# Altium integrated library Lattice ORCA Series 2.IntLib: 202 symbols (part 14 of 22)
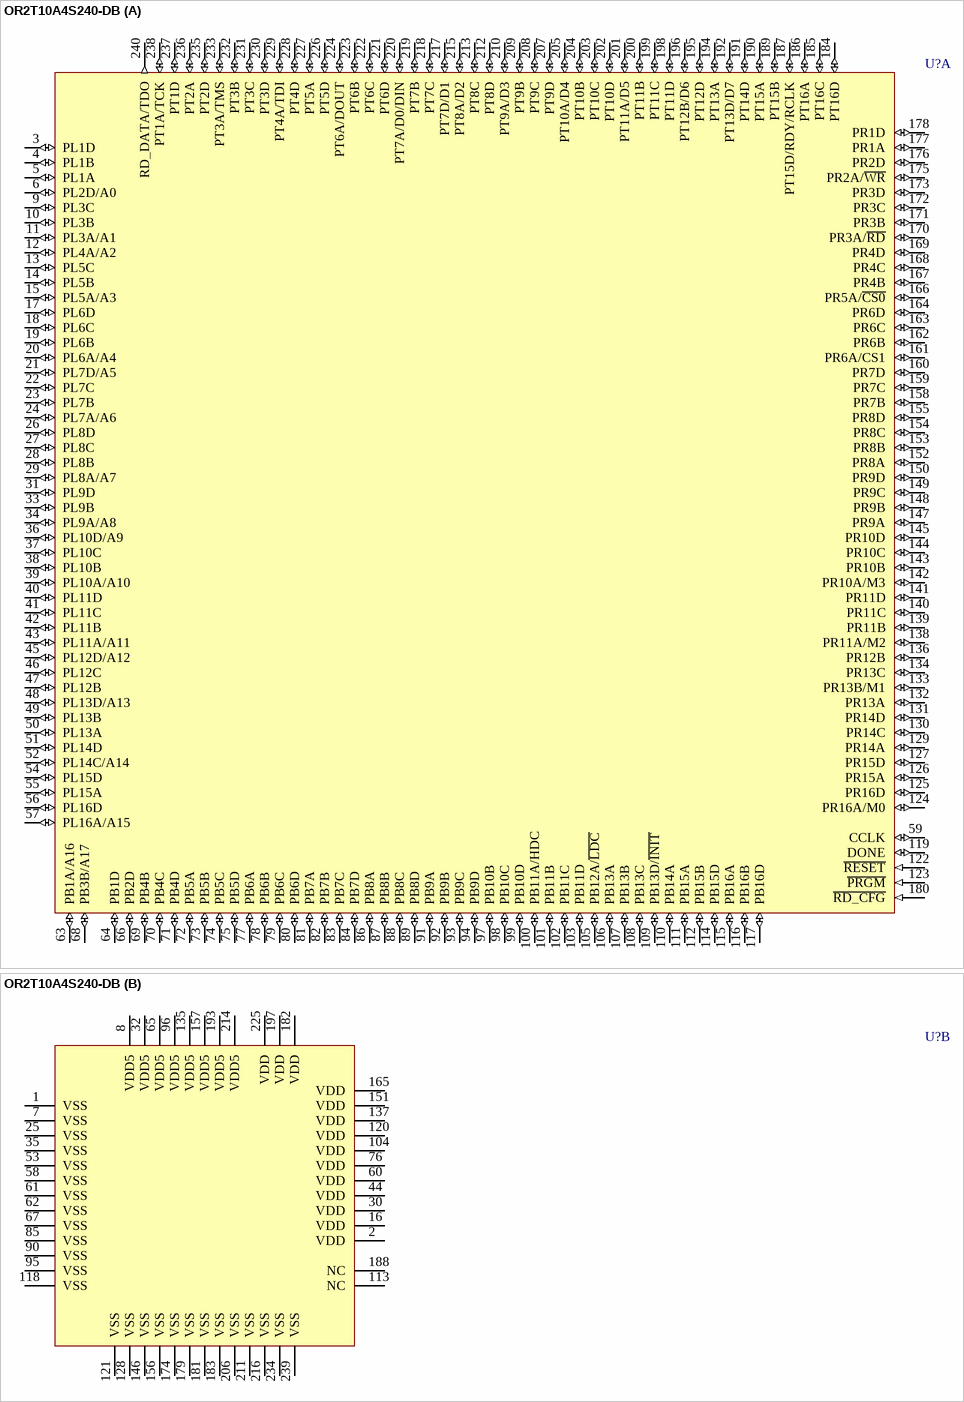
[diagram p205: symbol OR2T10A4S240-DB]

## OR2T10A4S240-DB
designator U?
ORCA Series 2C FPGA: 3.3 V, Commercial Grade, 256 User I/Os.; Published: 21-May-2003; LatestRevisionDate: 13-Apr-2006; LatestRevisionNote: IPC-7351 Footprint Added.; DatasheetVersion: Jan-2003; PackageVersion: pkg_32, Aug-2005; PackageReference: PQFP240; Publisher: Altium Limited; PackageDescription: 240-Pin Shrink Quad Flat Pack 0.5 mm Pitch; ComponentLink1Description: Manufacturer Link; ComponentLink1URL: http://www.latticesemi.com/products/fpga/orca/orca2/index.cfm; ComponentLink2Description: Datasheet; ComponentLink2URL: http://www.latticesemi.com/lit/docs/datasheets/fpga/ds99-094fpga.pdf; ComponentLink3Description: Lattice Login; ComponentLink3URL: http://www.latticesemi.com/account/login.cfm
footprint PQFP240_N (Shrink QFP, 240-Leads, Body 32x32mm, Pitch 0.5mm, IPC Medium Density)
footprint PQFP240_L (Shrink QFP, 240-Leads, Body 32x32mm, Pitch 0.5mm, IPC High Density)
footprint PQFP240_M (Shrink QFP, 240-Leads, Body 32x32mm, Pitch 0.5mm, IPC Low Density)
3D model OR2T10A-PQFP240 (240-Pin Shrink Quad Flat Pack 0.5 mm Pitch)
part A pins: 3 PL1D (io), 4 PL1B (io), 5 PL1A (io), 6 PL2D/A0 (io), 9 PL3C (io), 10 PL3B (io), 11 PL3A/A1 (io), 12 PL4A/A2 (io), 13 PL5C (io), 14 PL5B (io), 15 PL5A/A3 (io), 17 PL6D (io), 18 PL6C (io), 19 PL6B (io), 20 PL6A/A4 (io), 21 PL7D/A5 (io), 22 PL7C (io), 23 PL7B (io), 24 PL7A/A6 (io), 26 PL8D (io), 27 PL8C (io), 28 PL8B (io), 29 PL8A/A7 (io), 31 PL9D (io), 33 PL9B (io), 34 PL9A/A8 (io), 36 PL10D/A9 (io), 37 PL10C (io), 38 PL10B (io), 39 PL10A/A10 (io), 40 PL11D (io), 41 PL11C (io), 42 PL11B (io), 43 PL11A/A11 (io), 45 PL12D/A12 (io), 46 PL12C (io), 47 PL12B (io), 48 PL13D/A13 (io), 49 PL13B (io), 50 PL13A (io), 51 PL14D (io), 52 PL14C/A14 (io), 54 PL15D (io), 55 PL15A (io), 56 PL16D (io), 57 PL16A/A15 (io), 59 CCLK (io), 63 PB1A/A16 (io), 64 PB1D (io), 66 PB2D (io), 68 PB3B/A17 (io), 69 PB4B (io), 70 PB4C (io), 71 PB4D (io), 72 PB5A (io), 73 PB5B (io), 74 PB5C (io), 75 PB5D (io), 77 PB6A (io), 78 PB6B (io), 79 PB6C (io), 80 PB6D (io), 81 PB7A (io), 82 PB7B (io), 83 PB7C (io), 84 PB7D (io), 86 PB8A (io), 87 PB8B (io), 88 PB8C (io), 89 PB8D (io), 91 PB9A (io), 92 PB9B (io), 93 PB9C (io), 94 PB9D (io), 97 PB10B (io), 98 PB10C (io), 99 PB10D (io), 100 PB11A/HDC (io), 101 PB11B (io), 102 PB11C (io), 103 PB11D (io), 105 PB12A/~{LDC} (io), 106 PB13A (io), 107 PB13B (io), 108 PB13C (io), 109 PB13D/~{INIT} (io), 110 PB14A (io), 111 PB15A (io), 112 PB15B (io), 114 PB15D (io), 115 PB16A (io), 116 PB16B (io), 117 PB16D (io), 119 DONE (io), 122 ~{RESET} (in), 123 ~{PRGM} (in), 124 PR16A/M0 (io), 125 PR16D (io), 126 PR15A (io), 127 PR15D (io), 129 PR14A (io), 130 PR14C (io), 131 PR14D (io), 132 PR13A (io), 133 PR13B/M1 (io), 134 PR13C (io), 136 PR12B (io), 138 PR11A/M2 (io), 139 PR11B (io), 140 PR11C (io), 141 PR11D (io), 142 PR10A/M3 (io), 143 PR10B (io), 144 PR10C (io), 145 PR10D (io), 147 PR9A (io), 148 PR9B (io), 149 PR9C (io), 150 PR9D (io), 152 PR8A (io), 153 PR8B (io), 154 PR8C (io), 155 PR8D (io), 158 PR7B (io), 159 PR7C (io), 160 PR7D (io), 161 PR6A/CS1 (io), 162 PR6B (io), 163 PR6C (io), 164 PR6D (io), 166 PR5A/~{CS0} (io), 167 PR4B (io), 168 PR4C (io), 169 PR4D (io), 170 PR3A/~{RD} (io), 171 PR3B (io), 172 PR3C (io), 173 PR3D (io), 175 PR2A/~{WR} (io), 176 PR2D (io), 177 PR1A (io), 178 PR1D (io), 180 ~{RD_CFG} (in), 184 PT16D (io), 185 PT16C (io), 186 PT16A (io), 187 PT15D/RDY/RCLK (io), 189 PT15B (io), 190 PT15A (io), 191 PT14D (io), 192 PT13D/D7 (io), 194 PT13A (io), 195 PT12D (io), 196 PT12B/D6 (io), 198 PT11D (io), 199 PT11C (io), 200 PT11B (io), 201 PT11A/D5 (io), 202 PT10D (io), 203 PT10C (io), 204 PT10B (io), 205 PT10A/D4 (io), 207 PT9D (io), 208 PT9C (io), 209 PT9B (io), 210 PT9A/D3 (io), 212 PT8D (io), 213 PT8C (io), 215 PT8A/D2 (io), 217 PT7D/D1 (io), 218 PT7C (io), 219 PT7B (io), 220 PT7A/D0/DIN (io), 221 PT6D (io), 222 PT6C (io), 223 PT6B (io), 224 PT6A/DOUT (io), 226 PT5D (io), 227 PT5A (io), 228 PT4D (io), 229 PT4A/TDI (io), 230 PT3D (io), 231 PT3C (io), 232 PT3B (io), 233 PT3A/TMS (io), 235 PT2D (io), 236 PT2A (io), 237 PT1D (io), 238 PT1A/TCK (io), 240 RD_DATA/TDO (out)
part B pins: 1 VSS (power), 2 VDD (power), 7 VSS (power), 8 VDD5 (power), 16 VDD (power), 25 VSS (power), 30 VDD (power), 32 VDD5 (power), 35 VSS (power), 44 VDD (power), 53 VSS (power), 58 VSS (power), 60 VDD (power), 61 VSS (power), 62 VSS (power), 65 VDD5 (power), 67 VSS (power), 76 VDD (power), 85 VSS (power), 90 VSS (power), 95 VSS (power), 96 VDD5 (power), 104 VDD (power), 113 NC, 118 VSS (power), 120 VDD (power), 121 VSS (power), 128 VSS (power), 135 VDD5 (power), 137 VDD (power), 146 VSS (power), 151 VDD (power), 156 VSS (power), 157 VDD5 (power), 165 VDD (power), 174 VSS (power), 179 VSS (power), 181 VSS (power), 182 VDD (power), 183 VSS (power), 188 NC, 193 VDD5 (power), 197 VDD (power), 206 VSS (power), 211 VSS (power), 214 VDD5 (power), 216 VSS (power), 225 VDD (power), 234 VSS (power), 239 VSS (power)

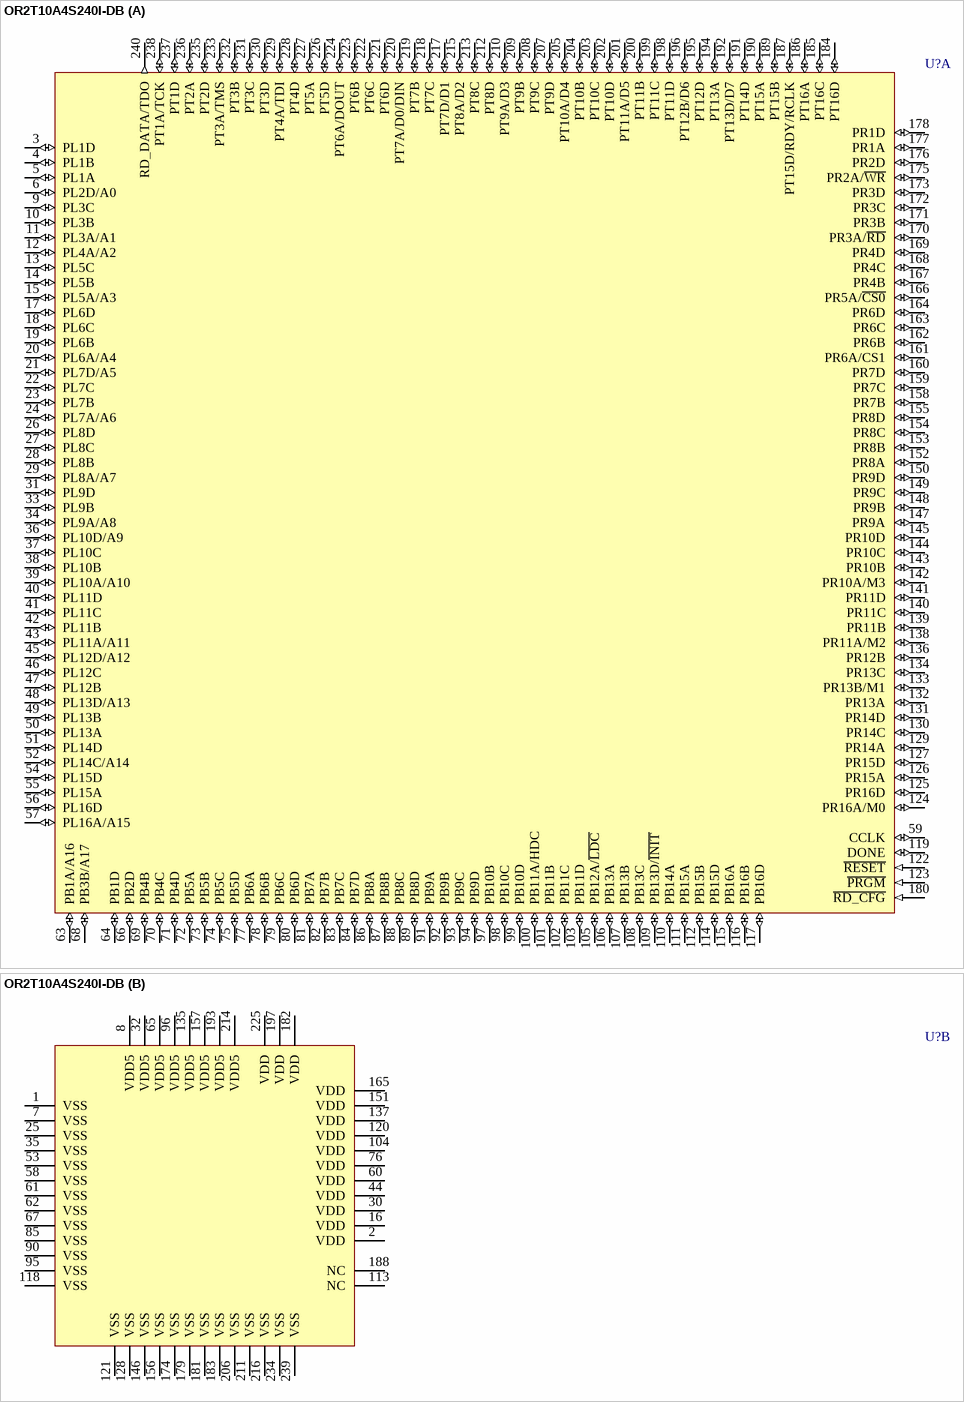
[diagram p107: symbol OR2T10A4S240I-DB]

## OR2T10A4S240I-DB
designator U?
ORCA Series 2C FPGA: 3.3 V, Industrial Grade, 256 User I/Os.; Published: 21-May-2003; LatestRevisionDate: 13-Apr-2006; LatestRevisionNote: IPC-7351 Footprint Added.; DatasheetVersion: Jan-2003; PackageVersion: pkg_32, Aug-2005; PackageReference: PQFP240; Publisher: Altium Limited; PackageDescription: 240-Pin Shrink Quad Flat Pack 0.5 mm Pitch; ComponentLink1Description: Manufacturer Link; ComponentLink1URL: http://www.latticesemi.com/products/fpga/orca/orca2/index.cfm; ComponentLink2Description: Datasheet; ComponentLink2URL: http://www.latticesemi.com/lit/docs/datasheets/fpga/ds99-094fpga.pdf; ComponentLink3Description: Lattice Login; ComponentLink3URL: http://www.latticesemi.com/account/login.cfm
footprint PQFP240_N (Shrink QFP, 240-Leads, Body 32x32mm, Pitch 0.5mm, IPC Medium Density)
footprint PQFP240_L (Shrink QFP, 240-Leads, Body 32x32mm, Pitch 0.5mm, IPC High Density)
footprint PQFP240_M (Shrink QFP, 240-Leads, Body 32x32mm, Pitch 0.5mm, IPC Low Density)
3D model OR2T10A-PQFP240 (240-Pin Shrink Quad Flat Pack 0.5 mm Pitch)
part A pins: 3 PL1D (io), 4 PL1B (io), 5 PL1A (io), 6 PL2D/A0 (io), 9 PL3C (io), 10 PL3B (io), 11 PL3A/A1 (io), 12 PL4A/A2 (io), 13 PL5C (io), 14 PL5B (io), 15 PL5A/A3 (io), 17 PL6D (io), 18 PL6C (io), 19 PL6B (io), 20 PL6A/A4 (io), 21 PL7D/A5 (io), 22 PL7C (io), 23 PL7B (io), 24 PL7A/A6 (io), 26 PL8D (io), 27 PL8C (io), 28 PL8B (io), 29 PL8A/A7 (io), 31 PL9D (io), 33 PL9B (io), 34 PL9A/A8 (io), 36 PL10D/A9 (io), 37 PL10C (io), 38 PL10B (io), 39 PL10A/A10 (io), 40 PL11D (io), 41 PL11C (io), 42 PL11B (io), 43 PL11A/A11 (io), 45 PL12D/A12 (io), 46 PL12C (io), 47 PL12B (io), 48 PL13D/A13 (io), 49 PL13B (io), 50 PL13A (io), 51 PL14D (io), 52 PL14C/A14 (io), 54 PL15D (io), 55 PL15A (io), 56 PL16D (io), 57 PL16A/A15 (io), 59 CCLK (io), 63 PB1A/A16 (io), 64 PB1D (io), 66 PB2D (io), 68 PB3B/A17 (io), 69 PB4B (io), 70 PB4C (io), 71 PB4D (io), 72 PB5A (io), 73 PB5B (io), 74 PB5C (io), 75 PB5D (io), 77 PB6A (io), 78 PB6B (io), 79 PB6C (io), 80 PB6D (io), 81 PB7A (io), 82 PB7B (io), 83 PB7C (io), 84 PB7D (io), 86 PB8A (io), 87 PB8B (io), 88 PB8C (io), 89 PB8D (io), 91 PB9A (io), 92 PB9B (io), 93 PB9C (io), 94 PB9D (io), 97 PB10B (io), 98 PB10C (io), 99 PB10D (io), 100 PB11A/HDC (io), 101 PB11B (io), 102 PB11C (io), 103 PB11D (io), 105 PB12A/~{LDC} (io), 106 PB13A (io), 107 PB13B (io), 108 PB13C (io), 109 PB13D/~{INIT} (io), 110 PB14A (io), 111 PB15A (io), 112 PB15B (io), 114 PB15D (io), 115 PB16A (io), 116 PB16B (io), 117 PB16D (io), 119 DONE (io), 122 ~{RESET} (in), 123 ~{PRGM} (in), 124 PR16A/M0 (io), 125 PR16D (io), 126 PR15A (io), 127 PR15D (io), 129 PR14A (io), 130 PR14C (io), 131 PR14D (io), 132 PR13A (io), 133 PR13B/M1 (io), 134 PR13C (io), 136 PR12B (io), 138 PR11A/M2 (io), 139 PR11B (io), 140 PR11C (io), 141 PR11D (io), 142 PR10A/M3 (io), 143 PR10B (io), 144 PR10C (io), 145 PR10D (io), 147 PR9A (io), 148 PR9B (io), 149 PR9C (io), 150 PR9D (io), 152 PR8A (io), 153 PR8B (io), 154 PR8C (io), 155 PR8D (io), 158 PR7B (io), 159 PR7C (io), 160 PR7D (io), 161 PR6A/CS1 (io), 162 PR6B (io), 163 PR6C (io), 164 PR6D (io), 166 PR5A/~{CS0} (io), 167 PR4B (io), 168 PR4C (io), 169 PR4D (io), 170 PR3A/~{RD} (io), 171 PR3B (io), 172 PR3C (io), 173 PR3D (io), 175 PR2A/~{WR} (io), 176 PR2D (io), 177 PR1A (io), 178 PR1D (io), 180 ~{RD_CFG} (in), 184 PT16D (io), 185 PT16C (io), 186 PT16A (io), 187 PT15D/RDY/RCLK (io), 189 PT15B (io), 190 PT15A (io), 191 PT14D (io), 192 PT13D/D7 (io), 194 PT13A (io), 195 PT12D (io), 196 PT12B/D6 (io), 198 PT11D (io), 199 PT11C (io), 200 PT11B (io), 201 PT11A/D5 (io), 202 PT10D (io), 203 PT10C (io), 204 PT10B (io), 205 PT10A/D4 (io), 207 PT9D (io), 208 PT9C (io), 209 PT9B (io), 210 PT9A/D3 (io), 212 PT8D (io), 213 PT8C (io), 215 PT8A/D2 (io), 217 PT7D/D1 (io), 218 PT7C (io), 219 PT7B (io), 220 PT7A/D0/DIN (io), 221 PT6D (io), 222 PT6C (io), 223 PT6B (io), 224 PT6A/DOUT (io), 226 PT5D (io), 227 PT5A (io), 228 PT4D (io), 229 PT4A/TDI (io), 230 PT3D (io), 231 PT3C (io), 232 PT3B (io), 233 PT3A/TMS (io), 235 PT2D (io), 236 PT2A (io), 237 PT1D (io), 238 PT1A/TCK (io), 240 RD_DATA/TDO (out)
part B pins: 1 VSS (power), 2 VDD (power), 7 VSS (power), 8 VDD5 (power), 16 VDD (power), 25 VSS (power), 30 VDD (power), 32 VDD5 (power), 35 VSS (power), 44 VDD (power), 53 VSS (power), 58 VSS (power), 60 VDD (power), 61 VSS (power), 62 VSS (power), 65 VDD5 (power), 67 VSS (power), 76 VDD (power), 85 VSS (power), 90 VSS (power), 95 VSS (power), 96 VDD5 (power), 104 VDD (power), 113 NC, 118 VSS (power), 120 VDD (power), 121 VSS (power), 128 VSS (power), 135 VDD5 (power), 137 VDD (power), 146 VSS (power), 151 VDD (power), 156 VSS (power), 157 VDD5 (power), 165 VDD (power), 174 VSS (power), 179 VSS (power), 181 VSS (power), 182 VDD (power), 183 VSS (power), 188 NC, 193 VDD5 (power), 197 VDD (power), 206 VSS (power), 211 VSS (power), 214 VDD5 (power), 216 VSS (power), 225 VDD (power), 234 VSS (power), 239 VSS (power)

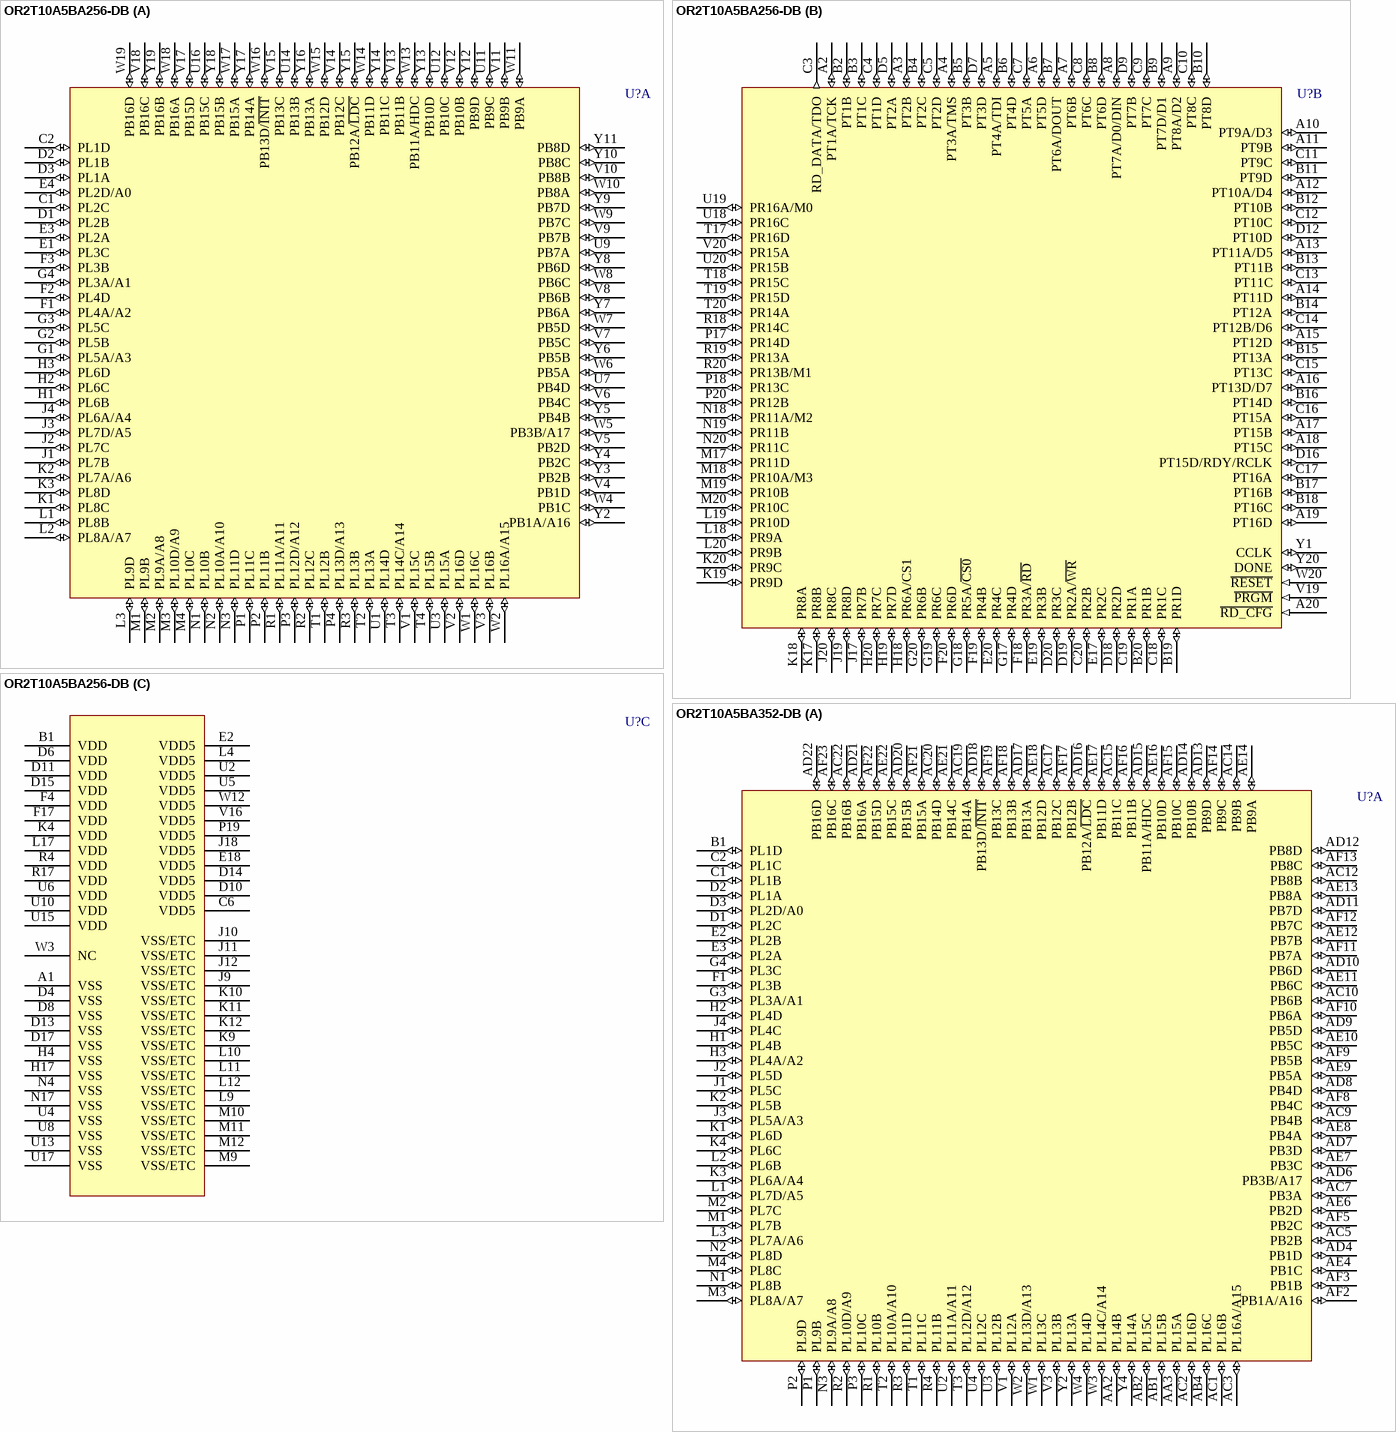
[diagram p108: symbols OR2T10A5BA256-DB to OR2T10A5BA352-DB]

## OR2T10A5BA256-DB
designator U?
ORCA Series 2C FPGA: 3.3 V, Commercial Grade, 256 User I/Os.; PinConnectionRecommendation: Ground array of 'VSS-ETC' pins for enhanced thermal capability or leave unconnected.; Published: 21-May-2003; LatestRevisionDate: 13-Apr-2006; LatestRevisionNote: IPC-7351 Footprint Added.; DatasheetVersion: Jan-2003; PackageVersion: pkg_32, Aug-2005; PackageReference: BGA272; Publisher: Altium Limited; PackageDescription: 272-Ball Ball Grid Array (BGA272); ComponentLink1Description: Manufacturer Link; ComponentLink1URL: http://www.latticesemi.com/products/fpga/orca/orca2/index.cfm; ComponentLink2Description: Datasheet; ComponentLink2URL: http://www.latticesemi.com/lit/docs/datasheets/fpga/ds99-094fpga.pdf; ComponentLink3Description: Lattice Login; ComponentLink3URL: http://www.latticesemi.com/account/login.cfm
footprint BGA272 (BGA, 272-Leads, Body 27x27mm, Pitch 1.27mm)
3D model OR2T10A-BGA272 (272-Ball Ball Grid Array (BGA272))
part A pins: C1 PL2C (io), C2 PL1D (io), D1 PL2B (io), D2 PL1B (io), D3 PL1A (io), E1 PL3C (io), E3 PL2A (io), E4 PL2D/A0 (io), F1 PL4A/A2 (io), F2 PL4D (io), F3 PL3B (io), G1 PL5A/A3 (io), G2 PL5B (io), G3 PL5C (io), G4 PL3A/A1 (io), H1 PL6B (io), H2 PL6C (io), H3 PL6D (io), J1 PL7B (io), J2 PL7C (io), J3 PL7D/A5 (io), J4 PL6A/A4 (io), K1 PL8C (io), K2 PL7A/A6 (io), K3 PL8D (io), L1 PL8B (io), L2 PL8A/A7 (io), L3 PL9D (io), M1 PL9B (io), M2 PL9A/A8 (io), M3 PL10D/A9 (io), M4 PL10C (io), N1 PL10B (io), N2 PL10A/A10 (io), N3 PL11D (io), P1 PL11C (io), P2 PL11B (io), P3 PL12D/A12 (io), P4 PL13D/A13 (io), R1 PL11A/A11 (io), R2 PL12C (io), R3 PL13B (io), T1 PL12B (io), T2 PL13A (io), T3 PL14C/A14 (io), T4 PL15B (io), U1 PL14D (io), U3 PL15A (io), U7 PB4D (io), U9 PB7A (io), U11 PB9C (io), U12 PB10C (io), U14 PB13B (io), U16 PB15C (io), V1 PL15C (io), V2 PL16D (io), V3 PL16B (io), V4 PB1D (io), V5 PB2D (io), V6 PB4C (io), V7 PB5C (io), V8 PB6B (io), V9 PB7B (io), V10 PB8B (io), V11 PB9B (io), V12 PB10B (io), V13 PB11B (io), V14 PB12C (io), V15 PB13C (io), V17 PB15D (io), V18 PB16C (io), W1 PL16C (io), W2 PL16A/A15 (io), W4 PB1C (io), W5 PB3B/A17 (io), W6 PB5A (io), W7 PB5D (io), W8 PB6C (io), W9 PB7C (io), W10 PB8A (io), W11 PB9A (io), W13 PB11A/HDC (io), W14 PB11D (io), W15 PB12D (io), W16 PB13D/~{INIT} (io), W17 PB15A (io), W18 PB16A (io), W19 PB16D (io), Y2 PB1A/A16 (io), Y3 PB2B (io), Y4 PB2C (io), Y5 PB4B (io), Y6 PB5B (io), Y7 PB6A (io), Y8 PB6D (io), Y9 PB7D (io), Y10 PB8C (io), Y11 PB8D (io), Y12 PB9D (io), Y13 PB10D (io), Y14 PB11C (io), Y15 PB12A/~{LDC} (io), Y16 PB13A (io), Y17 PB14A (io), Y18 PB15B (io), Y19 PB16B (io)
part B pins: A2 PT1A/TCK (io), A3 PT2B (io), A4 PT3A/TMS (io), A5 PT4A/TDI (io), A6 PT5D (io), A7 PT6B (io), A8 PT7A/D0/DIN (io), A9 PT8A/D2 (io), A10 PT9A/D3 (io), A11 PT9B (io), A12 PT10A/D4 (io), A13 PT11A/D5 (io), A14 PT11D (io), A15 PT12D (io), A16 PT13D/D7 (io), A17 PT15B (io), A18 PT15C (io), A19 PT16D (io), A20 ~{RD_CFG} (in), B2 PT1B (io), B3 PT1C (io), B4 PT2C (io), B5 PT3B (io), B6 PT4D (io), B7 PT6A/DOUT (io), B8 PT6D (io), B9 PT7D/D1 (io), B10 PT8D (io), B11 PT9D (io), B12 PT10B (io), B13 PT11B (io), B14 PT12A (io), B15 PT13A (io), B16 PT14D (io), B17 PT16B (io), B18 PT16C (io), B19 PR1D (io), B20 PR1B (io), C3 RD_DATA/TDO (out), C4 PT1D (io), C5 PT2D (io), C7 PT5A (io), C8 PT6C (io), C9 PT7C (io), C10 PT8C (io), C11 PT9C (io), C12 PT10C (io), C13 PT11C (io), C14 PT12B/D6 (io), C15 PT13C (io), C16 PT15A (io), C17 PT16A (io), C18 PR1C (io), C19 PR1A (io), C20 PR2B (io), D5 PT2A (io), D7 PT3D (io), D9 PT7B (io), D12 PT10D (io), D16 PT15D/RDY/RCLK (io), D18 PR2D (io), D19 PR2A/~{WR} (io), D20 PR3C (io), E17 PR2C (io), E19 PR3B (io), E20 PR4C (io), F18 PR3A/~{RD} (io), F19 PR4B (io), F20 PR6D (io), G17 PR4D (io), G18 PR5A/~{CS0} (io), G19 PR6C (io), G20 PR6B (io), H18 PR6A/CS1 (io), H19 PR7D (io), H20 PR7C (io), J17 PR7B (io), J19 PR8D (io), J20 PR8C (io), K17 PR8B (io), K18 PR8A (io), K19 PR9D (io), K20 PR9C (io), L18 PR9A (io), L19 PR10D (io), L20 PR9B (io), M17 PR11D (io), M18 PR10A/M3 (io), M19 PR10B (io), M20 PR10C (io), N18 PR11A/M2 (io), N19 PR11B (io), N20 PR11C (io), P17 PR14D (io), P18 PR13C (io), P20 PR12B (io), R18 PR14C (io), R19 PR13A (io), R20 PR13B/M1 (io), T17 PR16D (io), T18 PR15C (io), T19 PR15D (io), T20 PR14A (io), U18 PR16C (io), U19 PR16A/M0 (io), U20 PR15B (io), V19 ~{PRGM} (in), V20 PR15A (io), W20 ~{RESET} (in), Y1 CCLK (io), Y20 DONE (io)
part C pins: A1 VSS (power), B1 VDD (power), C6 VDD5 (power), D4 VSS (power), D6 VDD (power), D8 VSS (power), D10 VDD5 (power), D11 VDD (power), D13 VSS (power), D14 VDD5 (power), D15 VDD (power), D17 VSS (power), E2 VDD5 (power), E18 VDD5 (power), F4 VDD (power), F17 VDD (power), H4 VSS (power), H17 VSS (power), J9 VSS/ETC (power), J10 VSS/ETC (power), J11 VSS/ETC (power), J12 VSS/ETC (power), J18 VDD5 (power), K4 VDD (power), K9 VSS/ETC (power), K10 VSS/ETC (power), K11 VSS/ETC (power), K12 VSS/ETC (power), L4 VDD5 (power), L9 VSS/ETC (power), L10 VSS/ETC (power), L11 VSS/ETC (power), L12 VSS/ETC (power), L17 VDD (power), M9 VSS/ETC (power), M10 VSS/ETC (power), M11 VSS/ETC (power), M12 VSS/ETC (power), N4 VSS (power), N17 VSS (power), P19 VDD5 (power), R4 VDD (power), R17 VDD (power), U2 VDD5 (power), U4 VSS (power), U5 VDD5 (power), U6 VDD (power), U8 VSS (power), U10 VDD (power), U13 VSS (power), U15 VDD (power), U17 VSS (power), V16 VDD5 (power), W3 NC, W12 VDD5 (power)

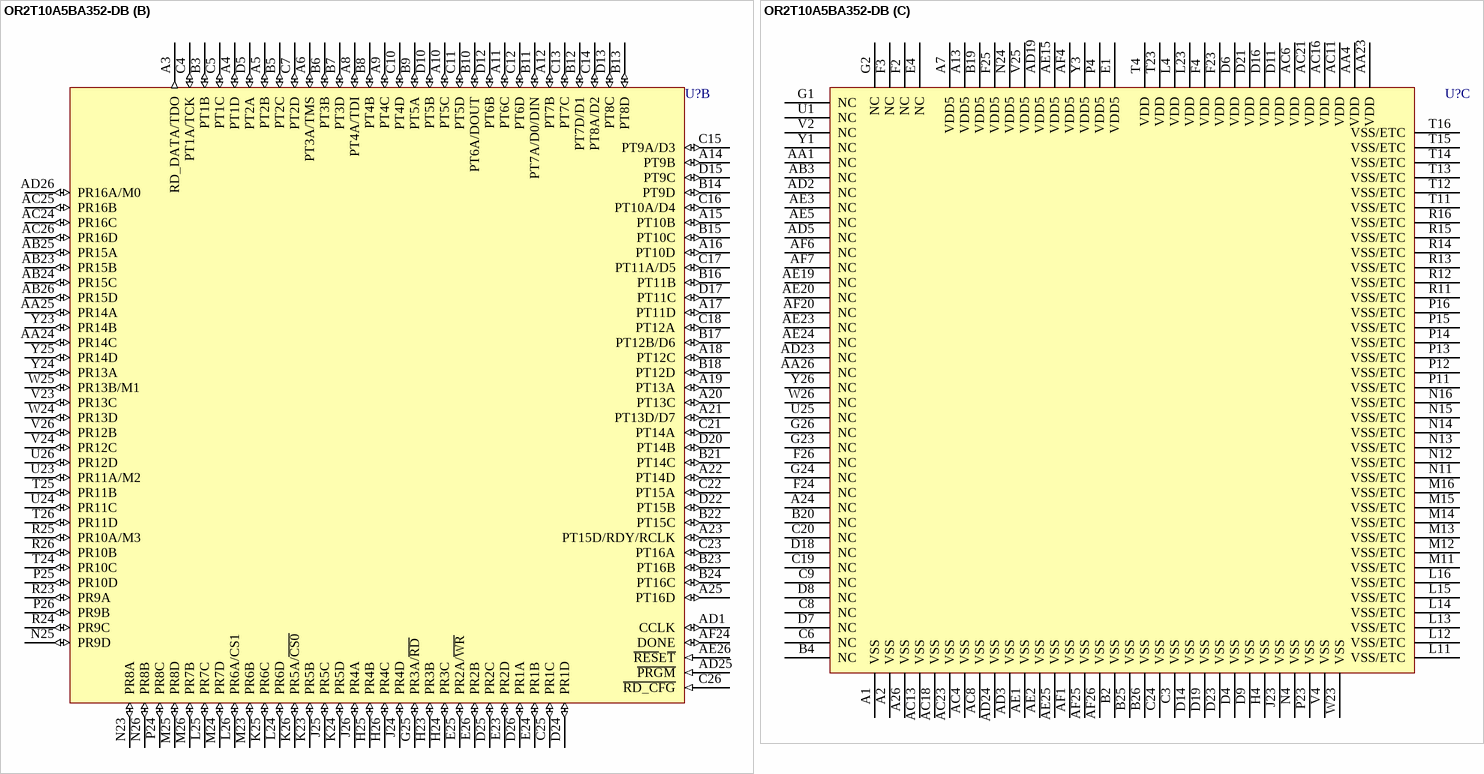
[diagram p109: symbol OR2T10A5BA352-DB]

## OR2T10A5BA352-DB
designator U?
ORCA Series 2C FPGA: 3.3 V, Commercial Grade, 256 User I/Os.; PinConnectionRecommendation: Ground array of 'VSS-ETC' pins for enhanced thermal capability or leave unconnected.; Published: 21-May-2003; LatestRevisionDate: 13-Apr-2006; LatestRevisionNote: IPC-7351 Footprint Added.; DatasheetVersion: Jan-2003; PackageVersion: pkg_32, Aug-2005; PackageReference: BGA388; Publisher: Altium Limited; PackageDescription: 388-Ball Ball Grid Array (BGA388); ComponentLink1Description: Manufacturer Link; ComponentLink1URL: http://www.latticesemi.com/products/fpga/orca/orca2/index.cfm; ComponentLink2Description: Datasheet; ComponentLink2URL: http://www.latticesemi.com/lit/docs/datasheets/fpga/ds99-094fpga.pdf; ComponentLink3Description: Lattice Login; ComponentLink3URL: http://www.latticesemi.com/account/login.cfm
footprint BGA388 (BGA, 388-Leads, Body 35x35mm, Pitch 1.27mm)
3D model OR2T10A-BGA388 (388-Ball Ball Grid Array (BGA388))
part A pins: AA2 PL14B (io), AA3 PL15A (io), AB1 PL15B (io), AB2 PL15C (io), AB4 PL16C (io), AC1 PL16B (io), AC2 PL16D (io), AC3 PL16A/A15 (io), AC5 PB2B (io), AC7 PB3A (io), AC9 PB4B (io), AC10 PB6B (io), AC12 PB8B (io), AC14 PB9B (io), AC15 PB11C (io), AC17 PB12C (io), AC19 PB14A (io), AC20 PB14D (io), AC22 PB16B (io), AD4 PB1D (io), AD6 PB3B/A17 (io), AD7 PB3D (io), AD8 PB4D (io), AD9 PB5D (io), AD10 PB6D (io), AD11 PB7D (io), AD12 PB8D (io), AD13 PB9D (io), AD14 PB10B (io), AD15 PB11A/HDC (io), AD16 PB12A/~{LDC} (io), AD17 PB13A (io), AD18 PB13D/~{INIT} (io), AD20 PB15B (io), AD21 PB16A (io), AD22 PB16D (io), AE4 PB1C (io), AE6 PB2D (io), AE7 PB3C (io), AE8 PB4A (io), AE9 PB5A (io), AE10 PB5C (io), AE11 PB6C (io), AE12 PB7B (io), AE13 PB8A (io), AE14 PB9A (io), AE16 PB10D (io), AE17 PB11D (io), AE18 PB12D (io), AE21 PB14C (io), AE22 PB15C (io), AF2 PB1A/A16 (io), AF3 PB1B (io), AF5 PB2C (io), AF8 PB4C (io), AF9 PB5B (io), AF10 PB6A (io), AF11 PB7A (io), AF12 PB7C (io), AF13 PB8C (io), AF14 PB9C (io), AF15 PB10C (io), AF16 PB11B (io), AF17 PB12B (io), AF18 PB13B (io), AF19 PB13C (io), AF21 PB15A (io), AF22 PB15D (io), AF23 PB16C (io), B1 PL1D (io), C1 PL1B (io), C2 PL1C (io), D1 PL2C (io), D2 PL1A (io), D3 PL2D/A0 (io), E2 PL2B (io), E3 PL2A (io), F1 PL3B (io), G3 PL3A/A1 (io), G4 PL3C (io), H1 PL4B (io), H2 PL4D (io), H3 PL4A/A2 (io), J1 PL5C (io), J2 PL5D (io), J3 PL5A/A3 (io), J4 PL4C (io), K1 PL6D (io), K2 PL5B (io), K3 PL6A/A4 (io), K4 PL6C (io), L1 PL7D/A5 (io), L2 PL6B (io), L3 PL7A/A6 (io), M1 PL7B (io), M2 PL7C (io), M3 PL8A/A7 (io), M4 PL8C (io), N1 PL8B (io), N2 PL8D (io), N3 PL9A/A8 (io), P1 PL9B (io), P2 PL9D (io), P3 PL10C (io), R1 PL10B (io), R2 PL10D/A9 (io), R3 PL11D (io), R4 PL11B (io), T1 PL11C (io), T2 PL10A/A10 (io), T3 PL12D/A12 (io), U2 PL11A/A11 (io), U3 PL12B (io), U4 PL12C (io), V1 PL12A (io), V3 PL13B (io), W1 PL13C (io), W2 PL13D/A13 (io), W3 PL14C/A14 (io), W4 PL14D (io), Y2 PL13A (io), Y4 PL14A (io)
part B pins: A3 RD_DATA/TDO (out), A4 PT1D (io), A5 PT2B (io), A6 PT3A/TMS (io), A8 PT4A/TDI (io), A9 PT4C (io), A10 PT5C (io), A11 PT6C (io), A12 PT7B (io), A14 PT9B (io), A15 PT10B (io), A16 PT10D (io), A17 PT11D (io), A18 PT12C (io), A19 PT13A (io), A20 PT13C (io), A21 PT13D/D7 (io), A22 PT14D (io), A23 PT15D/RDY/RCLK (io), A25 PT16D (io), AA24 PR14C (io), AA25 PR14A (io), AB23 PR15B (io), AB24 PR15C (io), AB25 PR15A (io), AB26 PR15D (io), AC24 PR16C (io), AC25 PR16B (io), AC26 PR16D (io), AD1 CCLK (io), AD25 ~{PRGM} (in), AD26 PR16A/M0 (io), AE26 ~{RES}E~{T} (in), AF24 DONE (io), B3 PT1B (io), B5 PT2C (io), B6 PT3B (io), B7 PT3D (io), B8 PT4B (io), B9 PT5A (io), B10 PT6A/DOUT (io), B11 PT7A/D0/DIN (io), B12 PT7D/D1 (io), B13 PT8D (io), B14 PT9D (io), B15 PT10C (io), B16 PT11B (io), B17 PT12B/D6 (io), B18 PT12D (io), B21 PT14C (io), B22 PT15C (io), B23 PT16B (io), B24 PT16C (io), C4 PT1A/TCK (io), C5 PT1C (io), C7 PT2D (io), C10 PT4D (io), C11 PT5D (io), C12 PT6D (io), C13 PT7C (io), C14 PT8A/D2 (io), C15 PT9A/D3 (io), C16 PT10A/D4 (io), C17 PT11A/D5 (io), C18 PT12A (io), C21 PT14A (io), C22 PT15A (io), C23 PT16A (io), C25 PR1C (io), C26 ~{RD_CFG} (in), D5 PT2A (io), D10 PT5B (io), D12 PT6B (io), D13 PT8C (io), D15 PT9C (io), D17 PT11C (io), D20 PT14B (io), D22 PT15B (io), D24 PR1D (io), D25 PR2C (io), D26 PR1A (io), E23 PR2D (io), E24 PR1B (io), E25 PR2A/~{WR} (io), E26 PR2B (io), G25 PR3A/~{RD} (io), H23 PR3B (io), H24 PR3C (io), H25 PR4B (io), H26 PR4C (io), J24 PR4D (io), J25 PR5C (io), J26 PR4A (io), K23 PR5B (io), K24 PR5D (io), K25 PR6C (io), K26 PR5A/~{CS0} (io), L24 PR6D (io), L25 PR7C (io), L26 PR6A/CS1 (io), M23 PR6B (io), M24 PR7D (io), M25 PR8D (io), M26 PR7B (io), N23 PR8A (io), N25 PR9D (io), N26 PR8B (io), P24 PR8C (io), P25 PR10D (io), P26 PR9B (io), R23 PR9A (io), R24 PR9C (io), R25 PR10A/M3 (io), R26 PR10B (io), T24 PR10C (io), T25 PR11B (io), T26 PR11D (io), U23 PR11A/M2 (io), U24 PR11C (io), U26 PR12D (io), V23 PR13C (io), V24 PR12C (io), V26 PR12B (io), W24 PR13D (io), W25 PR13B/M1 (io), Y23 PR14B (io), Y24 PR13A (io), Y25 PR14D (io)
part C pins: A1 VSS (power), A2 VSS (power), A7 VDD5 (power), A13 VDD5 (power), A24 NC, A26 VSS (power), AA1 NC, AA4 VDD (power), AA23 VDD (power), AA26 NC, AB3 NC, AC4 VSS (power), AC6 VDD (power), AC8 VSS (power), AC11 VDD (power), AC13 VSS (power), AC16 VDD (power), AC18 VSS (power), AC21 VDD (power), AC23 VSS (power), AD2 NC, AD3 VSS (power), AD5 NC, AD19 VDD5 (power), AD23 NC, AD24 VSS (power), AE1 VSS (power), AE2 VSS (power), AE3 NC, AE5 NC, AE15 VDD5 (power), AE19 NC, AE20 NC, AE23 NC, AE24 NC, AE25 VSS (power), AF1 VSS (power), AF4 VDD5 (power), AF6 NC, AF7 NC, AF20 NC, AF25 VSS (power), AF26 VSS (power), B2 VSS (power), B4 NC, B19 VDD5 (power), B20 NC, B25 VSS (power), B26 VSS (power), C3 VSS (power), C6 NC, C8 NC, C9 NC, C19 NC, C20 NC, C24 VSS (power), D4 VSS (power), D6 VDD (power), D7 NC, D8 NC, D9 VSS (power), D11 VDD (power), D14 VSS (power), D16 VDD (power), D18 NC, D19 VSS (power), D21 VDD (power), D23 VSS (power), E1 VDD5 (power), E4 NC, F2 NC, F3 NC, F4 VDD (power), F23 VDD (power), F24 NC, F25 VDD5 (power), F26 NC, G1 NC, G2 NC, G23 NC, G24 NC, G26 NC, H4 VSS (power), J23 VSS (power), L4 VDD (power), L11 VSS/ETC (power), L12 VSS/ETC (power), L13 VSS/ETC (power), L14 VSS/ETC (power), L15 VSS/ETC (power), L16 VSS/ETC (power), L23 VDD (power), M11 VSS/ETC (power), M12 VSS/ETC (power), M13 VSS/ETC (power), M14 VSS/ETC (power), M15 VSS/ETC (power), M16 VSS/ETC (power), N4 VSS (power), N11 VSS/ETC (power), N12 VSS/ETC (power), N13 VSS/ETC (power), N14 VSS/ETC (power), N15 VSS/ETC (power), N16 VSS/ETC (power), N24 VDD5 (power), P4 VDD5 (power), P11 VSS/ETC (power), P12 VSS/ETC (power), P13 VSS/ETC (power), P14 VSS/ETC (power), P15 VSS/ETC (power), P16 VSS/ETC (power), P23 VSS (power), R11 VSS/ETC (power), R12 VSS/ETC (power), R13 VSS/ETC (power), R14 VSS/ETC (power), R15 VSS/ETC (power), R16 VSS/ETC (power), T4 VDD (power), T11 VSS/ETC (power), T12 VSS/ETC (power), T13 VSS/ETC (power), T14 VSS/ETC (power), T15 VSS/ETC (power), T16 VSS/ETC (power), T23 VDD (power), U1 NC, U25 NC, V2 NC, V4 VSS (power), V25 VDD5 (power), W23 VSS (power), W26 NC, Y1 NC, Y3 VDD5 (power), Y26 NC

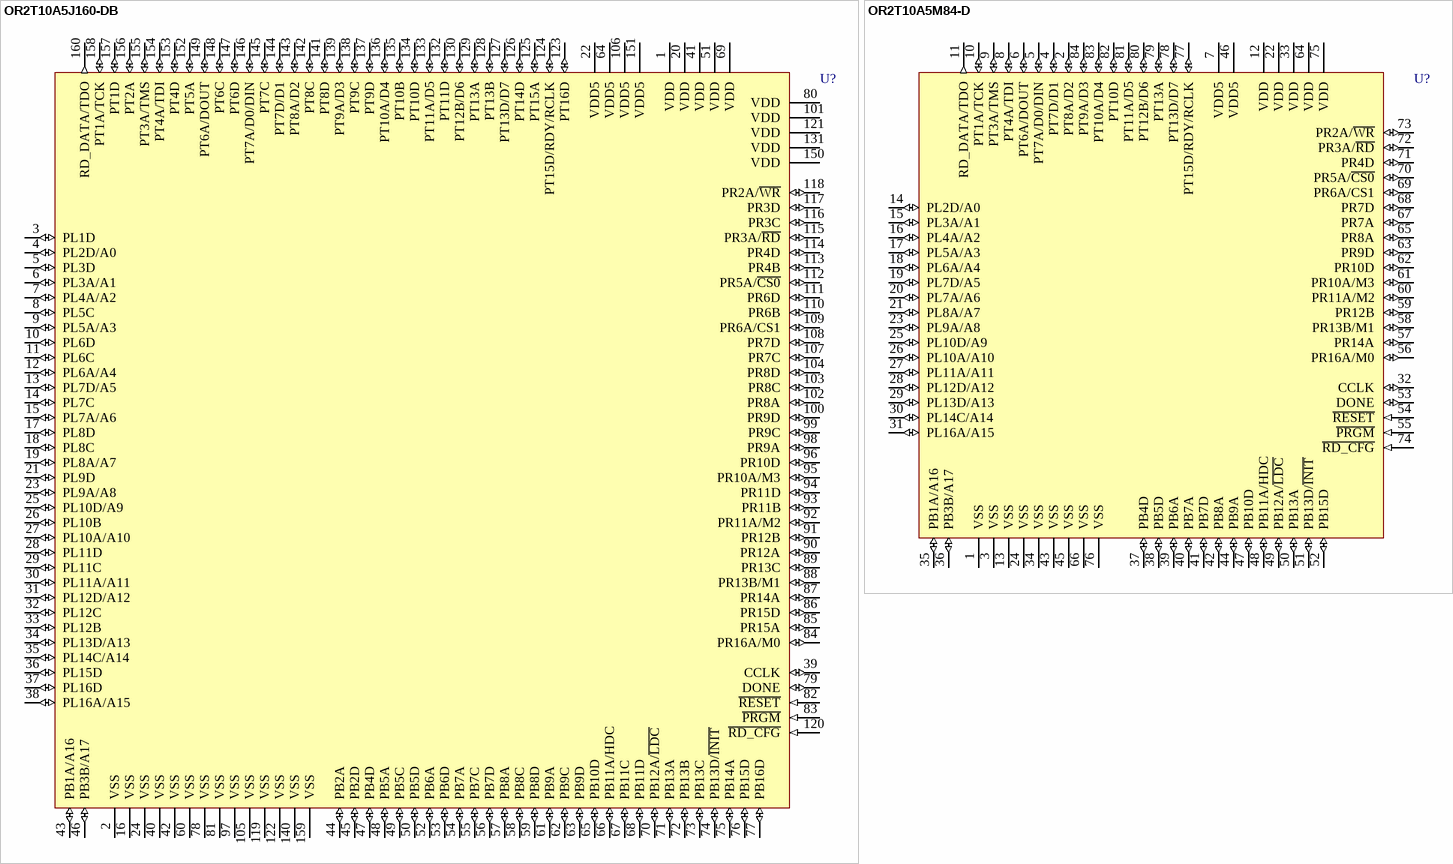
[diagram p110: symbols OR2T10A5J160-DB to OR2T10A5M84-D]

## OR2T10A5J160-DB
designator U?
ORCA Series 2C FPGA: 3.3 V, Commercial Grade, 256 User I/Os.; Published: 21-May-2003; LatestRevisionDate: 13-Apr-2006; LatestRevisionNote: IPC-7351 Footprint Added.; DatasheetVersion: Jan-2003; PackageVersion: pkg_32, Aug-2005; PackageReference: PQFP160; Publisher: Altium Limited; PackageDescription: 160-Pin Quad Flat Pack 0.65 mm Pitch; Code_IPC: QFP65P3120X3120-160; ComponentLink1Description: Manufacturer Link; ComponentLink1URL: http://www.latticesemi.com/products/fpga/orca/orca2/index.cfm; ComponentLink2Description: Datasheet; ComponentLink2URL: http://www.latticesemi.com/lit/docs/datasheets/fpga/ds99-094fpga.pdf; ComponentLink3Description: Lattice Login; ComponentLink3URL: http://www.latticesemi.com/account/login.cfm
footprint PQFP160_N (QFP, 160-Leads, Body 28 x 28mm, Pitch 0.65mm, IPC Medium Density)
footprint PQFP160_L (QFP, 160-Leads, Body 28 x 28mm, Pitch 0.65mm, IPC High Density)
footprint PQFP160_M (QFP, 160-Leads, Body 28 x 28mm, Pitch 0.65mm, IPC Low Density)
3D model OR2T10A-PQFP160 (160-Pin Quad Flat Pack 0.65 mm Pitch)
pins: 1 VDD (power), 2 VSS (power), 3 PL1D (io), 4 PL2D/A0 (io), 5 PL3D (io), 6 PL3A/A1 (io), 7 PL4A/A2 (io), 8 PL5C (io), 9 PL5A/A3 (io), 10 PL6D (io), 11 PL6C (io), 12 PL6A/A4 (io), 13 PL7D/A5 (io), 14 PL7C (io), 15 PL7A/A6 (io), 16 VSS (power), 17 PL8D (io), 18 PL8C (io), 19 PL8A/A7 (io), 20 VDD (power), 21 PL9D (io), 22 VDD5 (power), 23 PL9A/A8 (io), 24 VSS (power), 25 PL10D/A9 (io), 26 PL10B (io), 27 PL10A/A10 (io), 28 PL11D (io), 29 PL11C (io), 30 PL11A/A11 (io), 31 PL12D/A12 (io), 32 PL12C (io), 33 PL12B (io), 34 PL13D/A13 (io), 35 PL14C/A14 (io), 36 PL15D (io), 37 PL16D (io), 38 PL16A/A15 (io), 39 CCLK (io), 40 VSS (power), 41 VDD (power), 42 VSS (power), 43 PB1A/A16 (io), 44 PB2A (io), 45 PB2D (io), 46 PB3B/A17 (io), 47 PB4D (io), 48 PB5A (io), 49 PB5C (io), 50 PB5D (io), 51 VDD (power), 52 PB6A (io), 53 PB6D (io), 54 PB7A (io), 55 PB7C (io), 56 PB7D (io), 57 PB8A (io), 58 PB8C (io), 59 PB8D (io), 60 VSS (power), 61 PB9A (io), 62 PB9C (io), 63 PB9D (io), 64 VDD5 (power), 65 PB10D (io), 66 PB11A/HDC (io), 67 PB11C (io), 68 PB11D (io), 69 VDD (power), 70 PB12A/~{LDC} (io), 71 PB13A (io), 72 PB13B (io), 73 PB13C (io), 74 PB13D/~{INIT} (io), 75 PB14A (io), 76 PB15D (io), 77 PB16D (io), 78 VSS (power), 79 DONE (io), 80 VDD (power), 81 VSS (power), 82 ~{RESET} (in), 83 ~{PRGM} (in), 84 PR16A/M0 (io), 85 PR15A (io), 86 PR15D (io), 87 PR14A (io), 88 PR13B/M1 (io), 89 PR13C (io), 90 PR12A (io), 91 PR12B (io), 92 PR11A/M2 (io), 93 PR11B (io), 94 PR11D (io), 95 PR10A/M3 (io), 96 PR10D (io), 97 VSS (power), 98 PR9A (io), 99 PR9C (io), 100 PR9D (io), 101 VDD (power), 102 PR8A (io), 103 PR8C (io), 104 PR8D (io), 105 VSS (power), 106 VDD5 (power), 107 PR7C (io), 108 PR7D (io), 109 PR6A/CS1 (io), 110 PR6B (io), 111 PR6D (io), 112 PR5A/~{CS0} (io), 113 PR4B (io), 114 PR4D (io), 115 PR3A/~{RD} (io), 116 PR3C (io), 117 PR3D (io), 118 PR2A/~{WR} (io), 119 VSS (power), 120 ~{RD_CFG} (in), 121 VDD (power), 122 VSS (power), 123 PT16D (io), 124 PT15D/RDY/RCLK (io), 125 PT15A (io), 126 PT14D (io), 127 PT13D/D7 (io), 128 PT13B (io), 129 PT13A (io), 130 PT12B/D6 (io), 131 VDD (power), 132 PT11D (io), 133 PT11A/D5 (io), 134 PT10D (io), 135 PT10B (io), 136 PT10A/D4 (io), 137 PT9D (io), 138 PT9C (io), 139 PT9A/D3 (io), 140 VSS (power), 141 PT8D (io), 142 PT8C (io), 143 PT8A/D2 (io), 144 PT7D/D1 (io), 145 PT7C (io), 146 PT7A/D0/DIN (io), 147 PT6D (io), 148 PT6C (io), 149 PT6A/DOUT (io), 150 VDD (power), 151 VDD5 (power), 152 PT5A (io), 153 PT4D (io), 154 PT4A/TDI (io), 155 PT3A/TMS (io), 156 PT2A (io), 157 PT1D (io), 158 PT1A/TCK (io), 159 VSS (power), 160 RD_DATA/TDO (out)

## OR2T10A5M84-D
designator U?
ORCA Series 2C FPGA: 3.3 V, Commercial Grade, 256 User I/Os.; Published: 21-May-2003; LatestRevisionDate: 13-Apr-2006; LatestRevisionNote: IPC-7351 Footprint Added.; DatasheetVersion: Jan-2003; PackageVersion: pkg_32, Aug-2005; PackageReference: PLCC84; Publisher: Altium Limited; PackageDescription: 84-Pin Leaded Chip Carrier 1.27 mm Pitch; Code_IPC: PLCC-84; ComponentLink1Description: Manufacturer Link; ComponentLink1URL: http://www.latticesemi.com/products/fpga/orca/orca2/index.cfm; ComponentLink2Description: Datasheet; ComponentLink2URL: http://www.latticesemi.com/lit/docs/datasheets/fpga/ds99-094fpga.pdf; ComponentLink3Description: Lattice Login; ComponentLink3URL: http://www.latticesemi.com/account/login.cfm
footprint PLCC84_N (Leaded Chip Carrier, 84-Leads, Body 29.3x29.3mm, Pitch 1.27mm, IPC Medium Density)
footprint PLCC84_L (Leaded Chip Carrier, 84-Leads, Body 29.3x29.3mm, Pitch 1.27mm, IPC High Density)
footprint PLCC84_M (Leaded Chip Carrier, 84-Leads, Body 29.3x29.3mm, Pitch 1.27mm, IPC Low Density)
3D model OR2T10A-PLCC84 (84-Pin Leaded Chip Carrier 1.27 mm Pitch)
pins: 1 VSS (power), 2 PT8A/D2 (io), 3 VSS (power), 4 PT7D/D1 (io), 5 PT7A/D0/DIN (io), 6 PT6A/DOUT (io), 7 VDD5 (power), 8 PT4A/TDI (io), 9 PT3A/TMS (io), 10 PT1A/TCK (io), 11 RD_DATA/TDO (out), 12 VDD (power), 13 VSS (power), 14 PL2D/A0 (io), 15 PL3A/A1 (io), 16 PL4A/A2 (io), 17 PL5A/A3 (io), 18 PL6A/A4 (io), 19 PL7D/A5 (io), 20 PL7A/A6 (io), 21 PL8A/A7 (io), 22 VDD (power), 23 PL9A/A8 (io), 24 VSS (power), 25 PL10D/A9 (io), 26 PL10A/A10 (io), 27 PL11A/A11 (io), 28 PL12D/A12 (io), 29 PL13D/A13 (io), 30 PL14C/A14 (io), 31 PL16A/A15 (io), 32 CCLK (io), 33 VDD (power), 34 VSS (power), 35 PB1A/A16 (io), 36 PB3B/A17 (io), 37 PB4D (io), 38 PB5D (io), 39 PB6A (io), 40 PB7A (io), 41 PB7D (io), 42 PB8A (io), 43 VSS (power), 44 PB9A (io), 45 VSS (power), 46 VDD5 (power), 47 PB10D (io), 48 PB11A/HDC (io), 49 PB12A/~{LDC} (io), 50 PB13A (io), 51 PB13D/~{INIT} (io), 52 PB15D (io), 53 DONE (io), 54 ~{RESET} (in), 55 ~{PRGM} (in), 56 PR16A/M0 (io), 57 PR14A (io), 58 PR13B/M1 (io), 59 PR12B (io), 60 PR11A/M2 (io), 61 PR10A/M3 (io), 62 PR10D (io), 63 PR9D (io), 64 VDD (power), 65 PR8A (io), 66 VSS (power), 67 PR7A (io), 68 PR7D (io), 69 PR6A/CS1 (io), 70 PR5A/~{CS0} (io), 71 PR4D (io), 72 PR3A/~{RD} (io), 73 PR2A/~{WR} (io), 74 ~{RD_CFG} (in), 75 VDD (power), 76 VSS (power), 77 PT15D/RDY/RCLK (io), 78 PT13D/D7 (io), 79 PT13A (io), 80 PT12B/D6 (io), 81 PT11A/D5 (io), 82 PT10D (io), 83 PT10A/D4 (io), 84 PT9A/D3 (io)

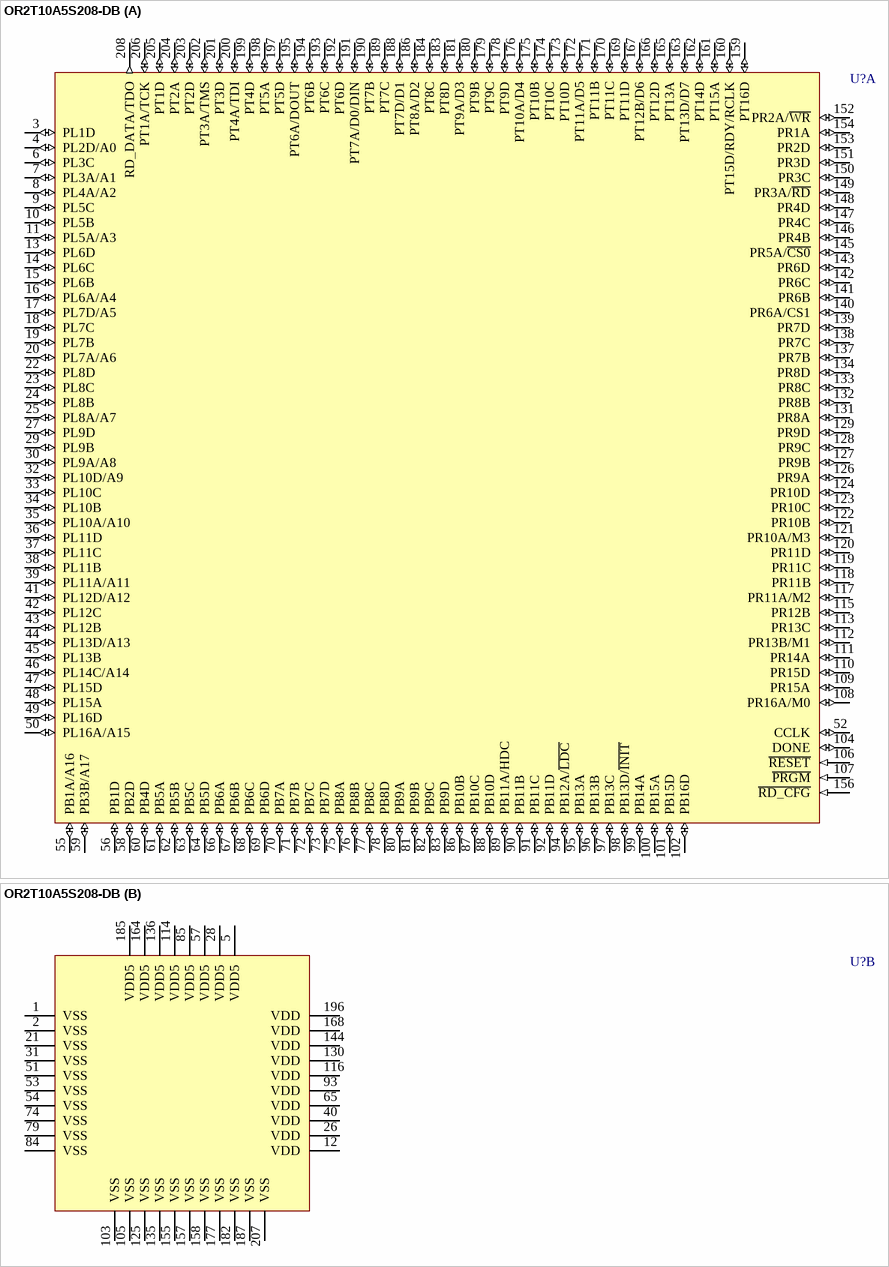
[diagram p111: symbol OR2T10A5S208-DB]

## OR2T10A5S208-DB
designator U?
ORCA Series 2C FPGA: 3.3 V, Commercial Grade, 256 User I/Os.; Published: 21-May-2003; LatestRevisionDate: 13-Apr-2006; LatestRevisionNote: IPC-7351 Footprint Added.; DatasheetVersion: Jan-2003; PackageVersion: pkg_32, Aug-2005; PackageReference: PQFP208; Publisher: Altium Limited; PackageDescription: 208-Pin Plastic Quad Flat Pack (PQFP208); Code_JEDEC: MO-143-FAI; ComponentLink1Description: Manufacturer Link; ComponentLink1URL: http://www.latticesemi.com/products/fpga/orca/orca2/index.cfm; ComponentLink2Description: Datasheet; ComponentLink2URL: http://www.latticesemi.com/lit/docs/datasheets/fpga/ds99-094fpga.pdf; ComponentLink3Description: Lattice Login; ComponentLink3URL: http://www.latticesemi.com/account/login.cfm
footprint PQFP208_N (Shrink QFP, 208-Leads, Body 28x28mm, Pitch 0.5mm, IPC Medium Density)
footprint PQFP208_L (Shrink QFP, 208-Leads, Body 28x28mm, Pitch 0.5mm, IPC High Density)
footprint PQFP208_M (Shrink QFP, 208-Leads, Body 28x28mm, Pitch 0.5mm, IPC Low Density)
3D model OR2T10A-PQFP208 (208-Pin Plastic Quad Flat Pack (PQFP208))
part A pins: 3 PL1D (io), 4 PL2D/A0 (io), 6 PL3C (io), 7 PL3A/A1 (io), 8 PL4A/A2 (io), 9 PL5C (io), 10 PL5B (io), 11 PL5A/A3 (io), 13 PL6D (io), 14 PL6C (io), 15 PL6B (io), 16 PL6A/A4 (io), 17 PL7D/A5 (io), 18 PL7C (io), 19 PL7B (io), 20 PL7A/A6 (io), 22 PL8D (io), 23 PL8C (io), 24 PL8B (io), 25 PL8A/A7 (io), 27 PL9D (io), 29 PL9B (io), 30 PL9A/A8 (io), 32 PL10D/A9 (io), 33 PL10C (io), 34 PL10B (io), 35 PL10A/A10 (io), 36 PL11D (io), 37 PL11C (io), 38 PL11B (io), 39 PL11A/A11 (io), 41 PL12D/A12 (io), 42 PL12C (io), 43 PL12B (io), 44 PL13D/A13 (io), 45 PL13B (io), 46 PL14C/A14 (io), 47 PL15D (io), 48 PL15A (io), 49 PL16D (io), 50 PL16A/A15 (io), 52 CCLK (io), 55 PB1A/A16 (io), 56 PB1D (io), 58 PB2D (io), 59 PB3B/A17 (io), 60 PB4D (io), 61 PB5A (io), 62 PB5B (io), 63 PB5C (io), 64 PB5D (io), 66 PB6A (io), 67 PB6B (io), 68 PB6C (io), 69 PB6D (io), 70 PB7A (io), 71 PB7B (io), 72 PB7C (io), 73 PB7D (io), 75 PB8A (io), 76 PB8B (io), 77 PB8C (io), 78 PB8D (io), 80 PB9A (io), 81 PB9B (io), 82 PB9C (io), 83 PB9D (io), 86 PB10B (io), 87 PB10C (io), 88 PB10D (io), 89 PB11A/HDC (io), 90 PB11B (io), 91 PB11C (io), 92 PB11D (io), 94 PB12A/~{LDC} (io), 95 PB13A (io), 96 PB13B (io), 97 PB13C (io), 98 PB13D/~{INIT} (io), 99 PB14A (io), 100 PB15A (io), 101 PB15D (io), 102 PB16D (io), 104 DONE (io), 106 ~{RESET} (in), 107 ~{PRGM} (in), 108 PR16A/M0 (io), 109 PR15A (io), 110 PR15D (io), 111 PR14A (io), 112 PR13B/M1 (io), 113 PR13C (io), 115 PR12B (io), 117 PR11A/M2 (io), 118 PR11B (io), 119 PR11C (io), 120 PR11D (io), 121 PR10A/M3 (io), 122 PR10B (io), 123 PR10C (io), 124 PR10D (io), 126 PR9A (io), 127 PR9B (io), 128 PR9C (io), 129 PR9D (io), 131 PR8A (io), 132 PR8B (io), 133 PR8C (io), 134 PR8D (io), 137 PR7B (io), 138 PR7C (io), 139 PR7D (io), 140 PR6A/CS1 (io), 141 PR6B (io), 142 PR6C (io), 143 PR6D (io), 145 PR5A/~{CS0} (io), 146 PR4B (io), 147 PR4C (io), 148 PR4D (io), 149 PR3A/~{RD} (io), 150 PR3C (io), 151 PR3D (io), 152 PR2A/~{WR} (io), 153 PR2D (io), 154 PR1A (io), 156 ~{RD_CFG} (in), 159 PT16D (io), 160 PT15D/RDY/RCLK (io), 161 PT15A (io), 162 PT14D (io), 163 PT13D/D7 (io), 165 PT13A (io), 166 PT12D (io), 167 PT12B/D6 (io), 169 PT11D (io), 170 PT11C (io), 171 PT11B (io), 172 PT11A/D5 (io), 173 PT10D (io), 174 PT10C (io), 175 PT10B (io), 176 PT10A/D4 (io), 178 PT9D (io), 179 PT9C (io), 180 PT9B (io), 181 PT9A/D3 (io), 183 PT8D (io), 184 PT8C (io), 186 PT8A/D2 (io), 188 PT7D/D1 (io), 189 PT7C (io), 190 PT7B (io), 191 PT7A/D0/DIN (io), 192 PT6D (io), 193 PT6C (io), 194 PT6B (io), 195 PT6A/DOUT (io), 197 PT5D (io), 198 PT5A (io), 199 PT4D (io), 200 PT4A/TDI (io), 201 PT3D (io), 202 PT3A/TMS (io), 203 PT2D (io), 204 PT2A (io), 205 PT1D (io), 206 PT1A/TCK (io), 208 RD_DATA/TDO (out)
part B pins: 1 VSS (power), 2 VSS (power), 5 VDD5 (power), 12 VDD (power), 21 VSS (power), 26 VDD (power), 28 VDD5 (power), 31 VSS (power), 40 VDD (power), 51 VSS (power), 53 VSS (power), 54 VSS (power), 57 VDD5 (power), 65 VDD (power), 74 VSS (power), 79 VSS (power), 84 VSS (power), 85 VDD5 (power), 93 VDD (power), 103 VSS (power), 105 VSS (power), 114 VDD5 (power), 116 VDD (power), 125 VSS (power), 130 VDD (power), 135 VSS (power), 136 VDD5 (power), 144 VDD (power), 155 VSS (power), 157 VSS (power), 158 VSS (power), 164 VDD5 (power), 168 VDD (power), 177 VSS (power), 182 VSS (power), 185 VDD5 (power), 187 VSS (power), 196 VDD (power), 207 VSS (power)

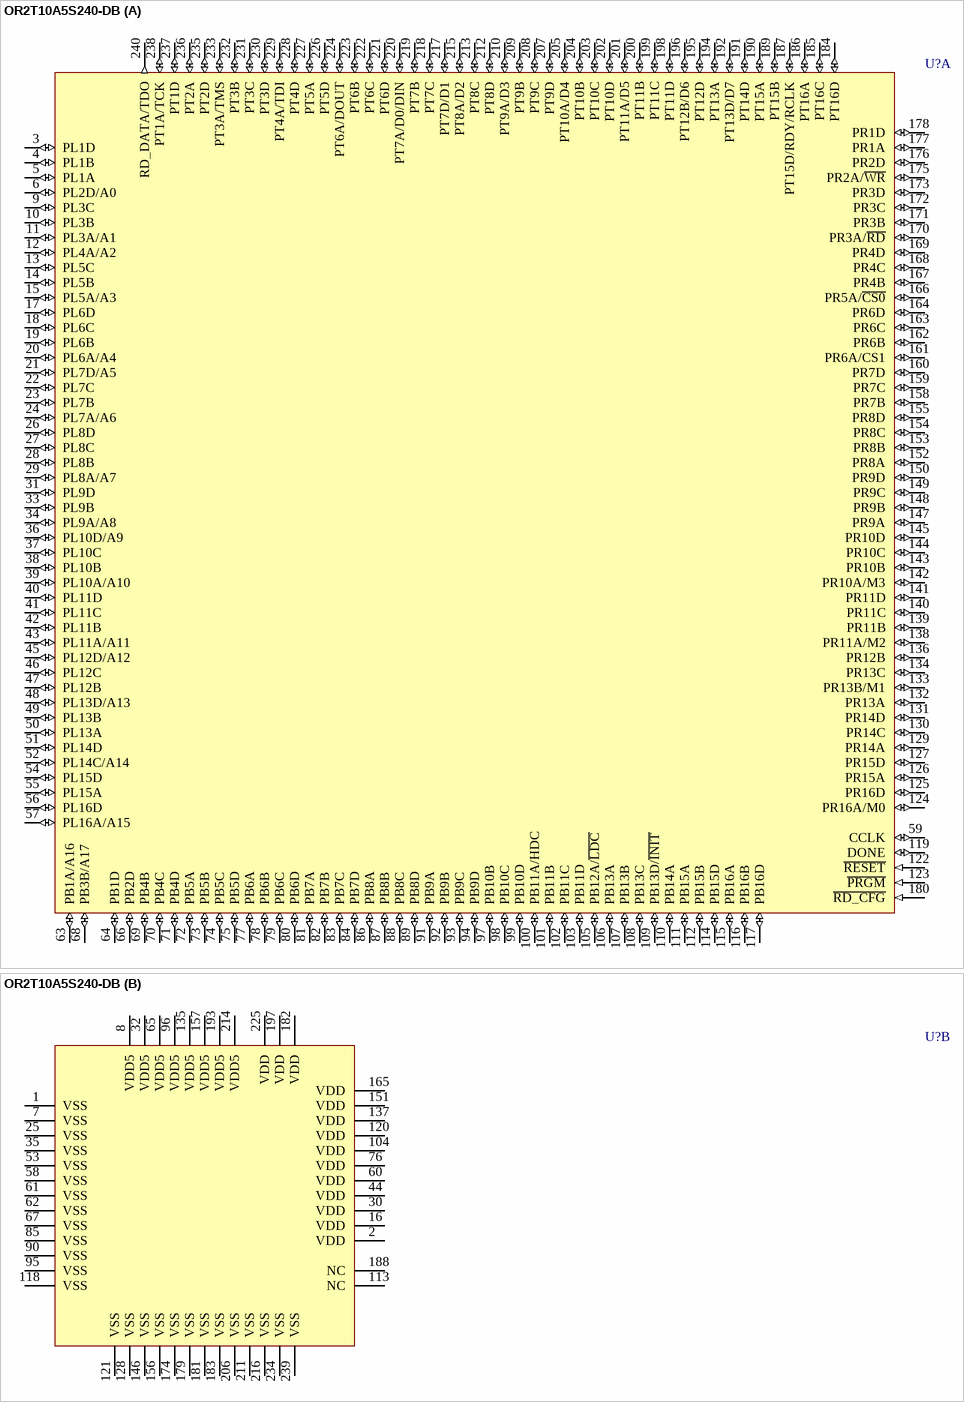
[diagram p112: symbol OR2T10A5S240-DB]

## OR2T10A5S240-DB
designator U?
ORCA Series 2C FPGA: 3.3 V, Commercial Grade, 256 User I/Os.; Published: 21-May-2003; LatestRevisionDate: 13-Apr-2006; LatestRevisionNote: IPC-7351 Footprint Added.; DatasheetVersion: Jan-2003; PackageVersion: pkg_32, Aug-2005; PackageReference: PQFP240; Publisher: Altium Limited; PackageDescription: 240-Pin Shrink Quad Flat Pack 0.5 mm Pitch; ComponentLink1Description: Manufacturer Link; ComponentLink1URL: http://www.latticesemi.com/products/fpga/orca/orca2/index.cfm; ComponentLink2Description: Datasheet; ComponentLink2URL: http://www.latticesemi.com/lit/docs/datasheets/fpga/ds99-094fpga.pdf; ComponentLink3Description: Lattice Login; ComponentLink3URL: http://www.latticesemi.com/account/login.cfm
footprint PQFP240_N (Shrink QFP, 240-Leads, Body 32x32mm, Pitch 0.5mm, IPC Medium Density)
footprint PQFP240_L (Shrink QFP, 240-Leads, Body 32x32mm, Pitch 0.5mm, IPC High Density)
footprint PQFP240_M (Shrink QFP, 240-Leads, Body 32x32mm, Pitch 0.5mm, IPC Low Density)
3D model OR2T10A-PQFP240 (240-Pin Shrink Quad Flat Pack 0.5 mm Pitch)
part A pins: 3 PL1D (io), 4 PL1B (io), 5 PL1A (io), 6 PL2D/A0 (io), 9 PL3C (io), 10 PL3B (io), 11 PL3A/A1 (io), 12 PL4A/A2 (io), 13 PL5C (io), 14 PL5B (io), 15 PL5A/A3 (io), 17 PL6D (io), 18 PL6C (io), 19 PL6B (io), 20 PL6A/A4 (io), 21 PL7D/A5 (io), 22 PL7C (io), 23 PL7B (io), 24 PL7A/A6 (io), 26 PL8D (io), 27 PL8C (io), 28 PL8B (io), 29 PL8A/A7 (io), 31 PL9D (io), 33 PL9B (io), 34 PL9A/A8 (io), 36 PL10D/A9 (io), 37 PL10C (io), 38 PL10B (io), 39 PL10A/A10 (io), 40 PL11D (io), 41 PL11C (io), 42 PL11B (io), 43 PL11A/A11 (io), 45 PL12D/A12 (io), 46 PL12C (io), 47 PL12B (io), 48 PL13D/A13 (io), 49 PL13B (io), 50 PL13A (io), 51 PL14D (io), 52 PL14C/A14 (io), 54 PL15D (io), 55 PL15A (io), 56 PL16D (io), 57 PL16A/A15 (io), 59 CCLK (io), 63 PB1A/A16 (io), 64 PB1D (io), 66 PB2D (io), 68 PB3B/A17 (io), 69 PB4B (io), 70 PB4C (io), 71 PB4D (io), 72 PB5A (io), 73 PB5B (io), 74 PB5C (io), 75 PB5D (io), 77 PB6A (io), 78 PB6B (io), 79 PB6C (io), 80 PB6D (io), 81 PB7A (io), 82 PB7B (io), 83 PB7C (io), 84 PB7D (io), 86 PB8A (io), 87 PB8B (io), 88 PB8C (io), 89 PB8D (io), 91 PB9A (io), 92 PB9B (io), 93 PB9C (io), 94 PB9D (io), 97 PB10B (io), 98 PB10C (io), 99 PB10D (io), 100 PB11A/HDC (io), 101 PB11B (io), 102 PB11C (io), 103 PB11D (io), 105 PB12A/~{LDC} (io), 106 PB13A (io), 107 PB13B (io), 108 PB13C (io), 109 PB13D/~{INIT} (io), 110 PB14A (io), 111 PB15A (io), 112 PB15B (io), 114 PB15D (io), 115 PB16A (io), 116 PB16B (io), 117 PB16D (io), 119 DONE (io), 122 ~{RESET} (in), 123 ~{PRGM} (in), 124 PR16A/M0 (io), 125 PR16D (io), 126 PR15A (io), 127 PR15D (io), 129 PR14A (io), 130 PR14C (io), 131 PR14D (io), 132 PR13A (io), 133 PR13B/M1 (io), 134 PR13C (io), 136 PR12B (io), 138 PR11A/M2 (io), 139 PR11B (io), 140 PR11C (io), 141 PR11D (io), 142 PR10A/M3 (io), 143 PR10B (io), 144 PR10C (io), 145 PR10D (io), 147 PR9A (io), 148 PR9B (io), 149 PR9C (io), 150 PR9D (io), 152 PR8A (io), 153 PR8B (io), 154 PR8C (io), 155 PR8D (io), 158 PR7B (io), 159 PR7C (io), 160 PR7D (io), 161 PR6A/CS1 (io), 162 PR6B (io), 163 PR6C (io), 164 PR6D (io), 166 PR5A/~{CS0} (io), 167 PR4B (io), 168 PR4C (io), 169 PR4D (io), 170 PR3A/~{RD} (io), 171 PR3B (io), 172 PR3C (io), 173 PR3D (io), 175 PR2A/~{WR} (io), 176 PR2D (io), 177 PR1A (io), 178 PR1D (io), 180 ~{RD_CFG} (in), 184 PT16D (io), 185 PT16C (io), 186 PT16A (io), 187 PT15D/RDY/RCLK (io), 189 PT15B (io), 190 PT15A (io), 191 PT14D (io), 192 PT13D/D7 (io), 194 PT13A (io), 195 PT12D (io), 196 PT12B/D6 (io), 198 PT11D (io), 199 PT11C (io), 200 PT11B (io), 201 PT11A/D5 (io), 202 PT10D (io), 203 PT10C (io), 204 PT10B (io), 205 PT10A/D4 (io), 207 PT9D (io), 208 PT9C (io), 209 PT9B (io), 210 PT9A/D3 (io), 212 PT8D (io), 213 PT8C (io), 215 PT8A/D2 (io), 217 PT7D/D1 (io), 218 PT7C (io), 219 PT7B (io), 220 PT7A/D0/DIN (io), 221 PT6D (io), 222 PT6C (io), 223 PT6B (io), 224 PT6A/DOUT (io), 226 PT5D (io), 227 PT5A (io), 228 PT4D (io), 229 PT4A/TDI (io), 230 PT3D (io), 231 PT3C (io), 232 PT3B (io), 233 PT3A/TMS (io), 235 PT2D (io), 236 PT2A (io), 237 PT1D (io), 238 PT1A/TCK (io), 240 RD_DATA/TDO (out)
part B pins: 1 VSS (power), 2 VDD (power), 7 VSS (power), 8 VDD5 (power), 16 VDD (power), 25 VSS (power), 30 VDD (power), 32 VDD5 (power), 35 VSS (power), 44 VDD (power), 53 VSS (power), 58 VSS (power), 60 VDD (power), 61 VSS (power), 62 VSS (power), 65 VDD5 (power), 67 VSS (power), 76 VDD (power), 85 VSS (power), 90 VSS (power), 95 VSS (power), 96 VDD5 (power), 104 VDD (power), 113 NC, 118 VSS (power), 120 VDD (power), 121 VSS (power), 128 VSS (power), 135 VDD5 (power), 137 VDD (power), 146 VSS (power), 151 VDD (power), 156 VSS (power), 157 VDD5 (power), 165 VDD (power), 174 VSS (power), 179 VSS (power), 181 VSS (power), 182 VDD (power), 183 VSS (power), 188 NC, 193 VDD5 (power), 197 VDD (power), 206 VSS (power), 211 VSS (power), 214 VDD5 (power), 216 VSS (power), 225 VDD (power), 234 VSS (power), 239 VSS (power)

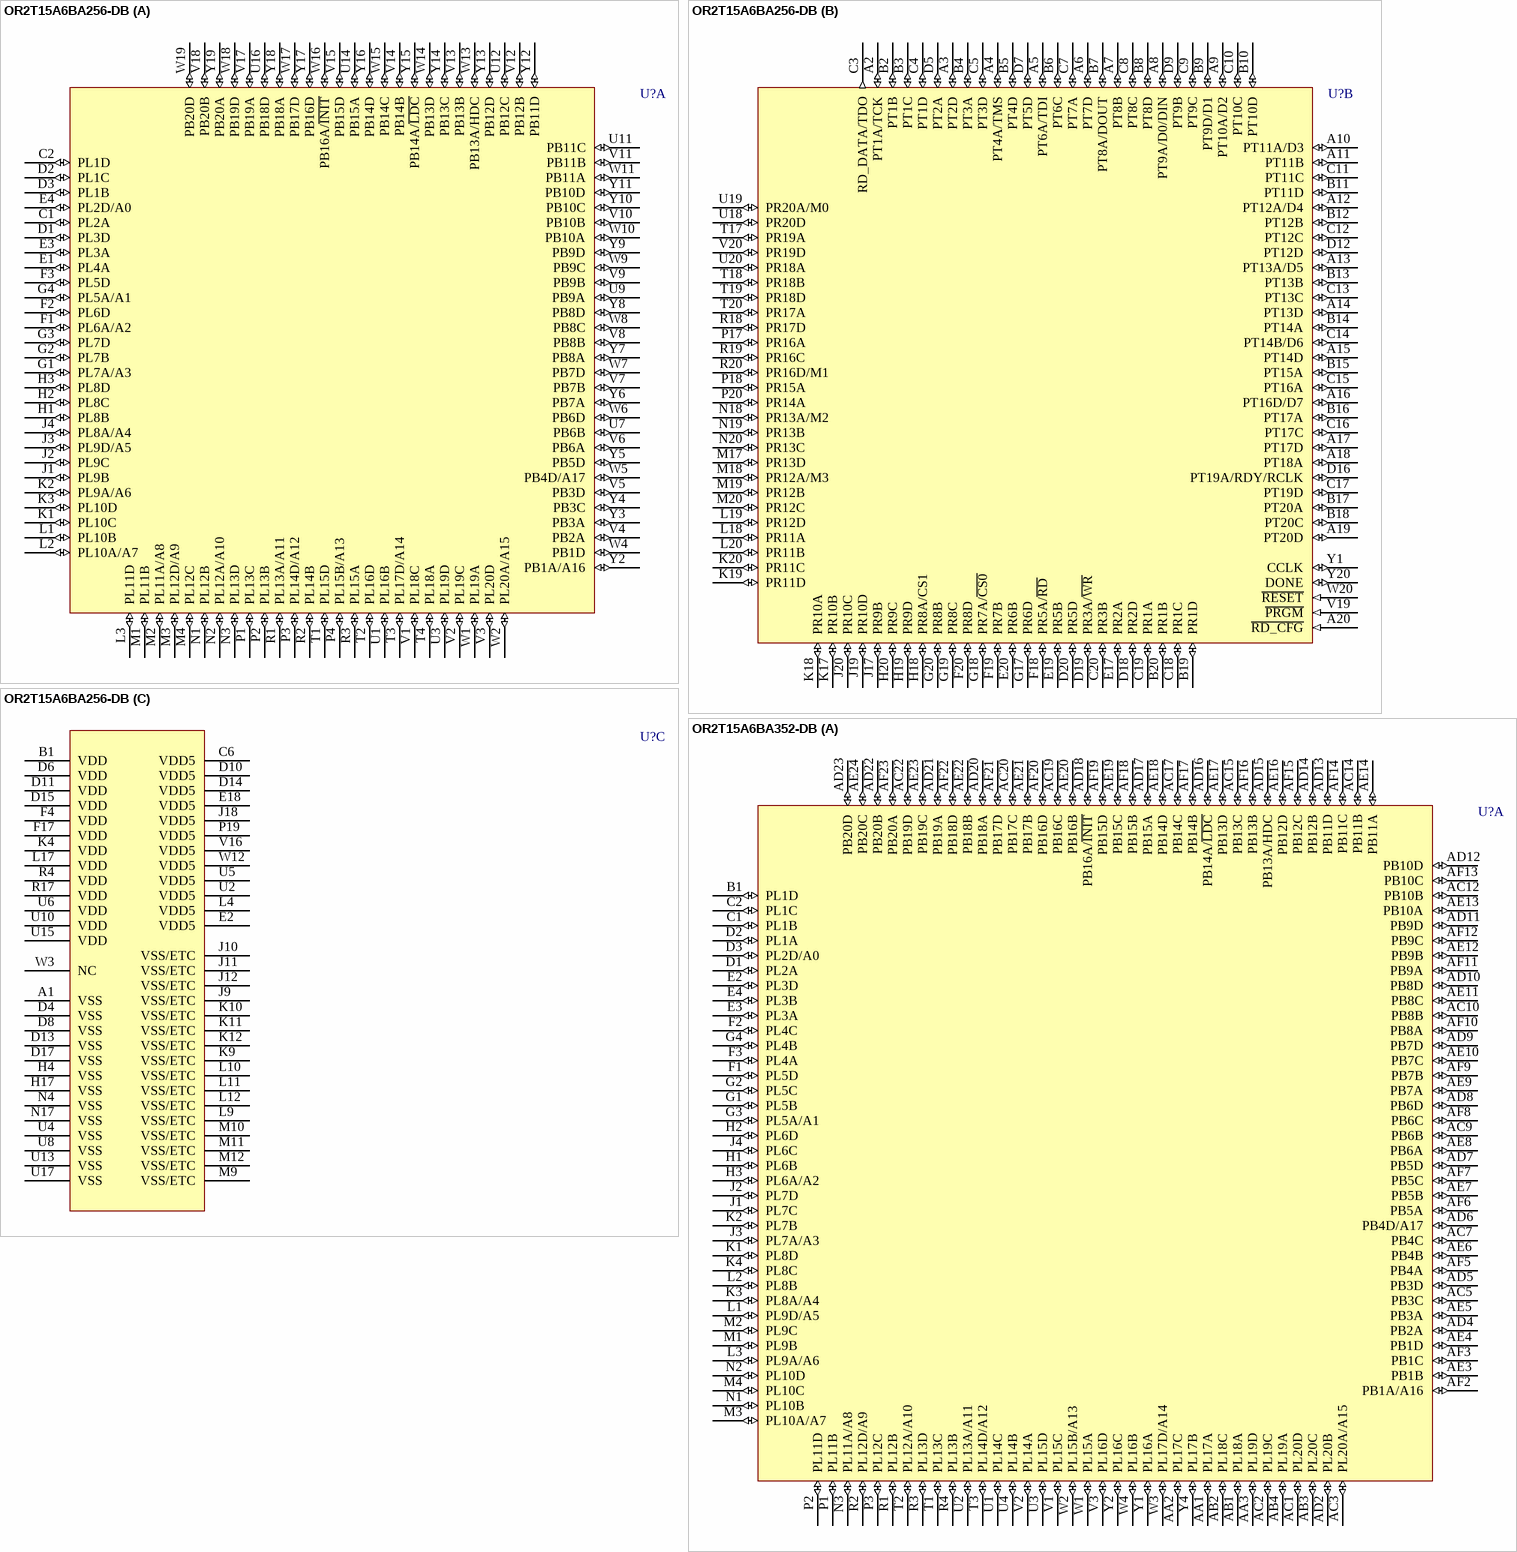
[diagram p113: symbols OR2T15A6BA256-DB to OR2T15A6BA352-DB]

## OR2T15A6BA256-DB
designator U?
ORCA Series 2C FPGA: 3.3 V, Commercial Grade, 320 User I/Os.; PinConnectionRecommendation: Ground array of 'VSS-ETC' pins for enhanced thermal capability or leave unconnected.; Published: 21-May-2003; LatestRevisionDate: 13-Apr-2006; LatestRevisionNote: IPC-7351 Footprint Added.; DatasheetVersion: Jan-2003; PackageVersion: pkg_32, Aug-2005; PackageReference: BGA272; Publisher: Altium Limited; PackageDescription: 272-Ball Ball Grid Array (BGA272); ComponentLink1Description: Manufacturer Link; ComponentLink1URL: http://www.latticesemi.com/products/fpga/orca/orca2/index.cfm; ComponentLink2Description: Datasheet; ComponentLink2URL: http://www.latticesemi.com/lit/docs/datasheets/fpga/ds99-094fpga.pdf; ComponentLink3Description: Lattice Login; ComponentLink3URL: http://www.latticesemi.com/account/login.cfm
footprint BGA272 (BGA, 272-Leads, Body 27x27mm, Pitch 1.27mm)
3D model OR2T15A-BGA272 (272-Ball Ball Grid Array (BGA272))
part A pins: C1 PL2A (io), C2 PL1D (io), D1 PL3D (io), D2 PL1C (io), D3 PL1B (io), E1 PL4A (io), E3 PL3A (io), E4 PL2D/A0 (io), F1 PL6A/A2 (io), F2 PL6D (io), F3 PL5D (io), G1 PL7A/A3 (io), G2 PL7B (io), G3 PL7D (io), G4 PL5A/A1 (io), H1 PL8B (io), H2 PL8C (io), H3 PL8D (io), J1 PL9B (io), J2 PL9C (io), J3 PL9D/A5 (io), J4 PL8A/A4 (io), K1 PL10C (io), K2 PL9A/A6 (io), K3 PL10D (io), L1 PL10B (io), L2 PL10A/A7 (io), L3 PL11D (io), M1 PL11B (io), M2 PL11A/A8 (io), M3 PL12D/A9 (io), M4 PL12C (io), N1 PL12B (io), N2 PL12A/A10 (io), N3 PL13D (io), P1 PL13C (io), P2 PL13B (io), P3 PL14D/A12 (io), P4 PL15B/A13 (io), R1 PL13A/A11 (io), R2 PL14B (io), R3 PL15A (io), T1 PL15D (io), T2 PL16D (io), T3 PL17D/A14 (io), T4 PL18A (io), U1 PL16B (io), U3 PL19D (io), U7 PB6B (io), U9 PB9A (io), U11 PB11C (io), U12 PB12C (io), U14 PB15A (io), U16 PB18D (io), V1 PL18C (io), V2 PL19C (io), V3 PL20D (io), V4 PB2A (io), V5 PB3D (io), V6 PB6A (io), V7 PB7B (io), V8 PB8B (io), V9 PB9B (io), V10 PB10B (io), V11 PB11B (io), V12 PB12B (io), V13 PB13B (io), V14 PB14B (io), V15 PB15D (io), V17 PB19A (io), V18 PB20B (io), W1 PL19A (io), W2 PL20A/A15 (io), W4 PB1D (io), W5 PB4D/A17 (io), W6 PB6D (io), W7 PB7D (io), W8 PB8C (io), W9 PB9C (io), W10 PB10A (io), W11 PB11A (io), W13 PB13A/HDC (io), W14 PB13D (io), W15 PB14C (io), W16 PB16A/~{INIT} (io), W17 PB17D (io), W18 PB19D (io), W19 PB20D (io), Y2 PB1A/A16 (io), Y3 PB3A (io), Y4 PB3C (io), Y5 PB5D (io), Y6 PB7A (io), Y7 PB8A (io), Y8 PB8D (io), Y9 PB9D (io), Y10 PB10C (io), Y11 PB10D (io), Y12 PB11D (io), Y13 PB12D (io), Y14 PB13C (io), Y15 PB14A/~{LDC} (io), Y16 PB14D (io), Y17 PB16D (io), Y18 PB18A (io), Y19 PB20A (io)
part B pins: A2 PT1A/TCK (io), A3 PT2D (io), A4 PT4A/TMS (io), A5 PT6A/TDI (io), A6 PT7D (io), A7 PT8B (io), A8 PT9A/D0/DIN (io), A9 PT10A/D2 (io), A10 PT11A/D3 (io), A11 PT11B (io), A12 PT12A/D4 (io), A13 PT13A/D5 (io), A14 PT13D (io), A15 PT14D (io), A16 PT16D/D7 (io), A17 PT17D (io), A18 PT18A (io), A19 PT20D (io), A20 ~{RD_CFG} (in), B2 PT1B (io), B3 PT1C (io), B4 PT3A (io), B5 PT4D (io), B6 PT6C (io), B7 PT8A/DOUT (io), B8 PT8D (io), B9 PT9D/D1 (io), B10 PT10D (io), B11 PT11D (io), B12 PT12B (io), B13 PT13B (io), B14 PT14A (io), B15 PT15A (io), B16 PT17A (io), B17 PT20A (io), B18 PT20C (io), B19 PR1D (io), B20 PR1B (io), C3 RD_DATA/TDO (out), C4 PT1D (io), C5 PT3D (io), C7 PT7A (io), C8 PT8C (io), C9 PT9C (io), C10 PT10C (io), C11 PT11C (io), C12 PT12C (io), C13 PT13C (io), C14 PT14B/D6 (io), C15 PT16A (io), C16 PT17C (io), C17 PT19D (io), C18 PR1C (io), C19 PR1A (io), C20 PR3B (io), D5 PT2A (io), D7 PT5D (io), D9 PT9B (io), D12 PT12D (io), D16 PT19A/RDY/RCLK (io), D18 PR2D (io), D19 PR3A/~{WR} (io), D20 PR5D (io), E17 PR2A (io), E19 PR5B (io), E20 PR6B (io), F18 PR5A/~{RD} (io), F19 PR7B (io), F20 PR8D (io), G17 PR6D (io), G18 PR7A/~{CS0} (io), G19 PR8C (io), G20 PR8B (io), H18 PR8A/CS1 (io), H19 PR9D (io), H20 PR9C (io), J17 PR9B (io), J19 PR10D (io), J20 PR10C (io), K17 PR10B (io), K18 PR10A (io), K19 PR11D (io), K20 PR11C (io), L18 PR11A (io), L19 PR12D (io), L20 PR11B (io), M17 PR13D (io), M18 PR12A/M3 (io), M19 PR12B (io), M20 PR12C (io), N18 PR13A/M2 (io), N19 PR13B (io), N20 PR13C (io), P17 PR16A (io), P18 PR15A (io), P20 PR14A (io), R18 PR17D (io), R19 PR16C (io), R20 PR16D/M1 (io), T17 PR19A (io), T18 PR18B (io), T19 PR18D (io), T20 PR17A (io), U18 PR20D (io), U19 PR20A/M0 (io), U20 PR18A (io), V19 ~{PRGM} (in), V20 PR19D (io), W20 ~{RESET} (in), Y1 CCLK (io), Y20 DONE (io)
part C pins: A1 VSS (power), B1 VDD (power), C6 VDD5 (power), D4 VSS (power), D6 VDD (power), D8 VSS (power), D10 VDD5 (power), D11 VDD (power), D13 VSS (power), D14 VDD5 (power), D15 VDD (power), D17 VSS (power), E2 VDD5 (power), E18 VDD5 (power), F4 VDD (power), F17 VDD (power), H4 VSS (power), H17 VSS (power), J9 VSS/ETC (power), J10 VSS/ETC (power), J11 VSS/ETC (power), J12 VSS/ETC (power), J18 VDD5 (power), K4 VDD (power), K9 VSS/ETC (power), K10 VSS/ETC (power), K11 VSS/ETC (power), K12 VSS/ETC (power), L4 VDD5 (power), L9 VSS/ETC (power), L10 VSS/ETC (power), L11 VSS/ETC (power), L12 VSS/ETC (power), L17 VDD (power), M9 VSS/ETC (power), M10 VSS/ETC (power), M11 VSS/ETC (power), M12 VSS/ETC (power), N4 VSS (power), N17 VSS (power), P19 VDD5 (power), R4 VDD (power), R17 VDD (power), U2 VDD5 (power), U4 VSS (power), U5 VDD5 (power), U6 VDD (power), U8 VSS (power), U10 VDD (power), U13 VSS (power), U15 VDD (power), U17 VSS (power), V16 VDD5 (power), W3 NC, W12 VDD5 (power)

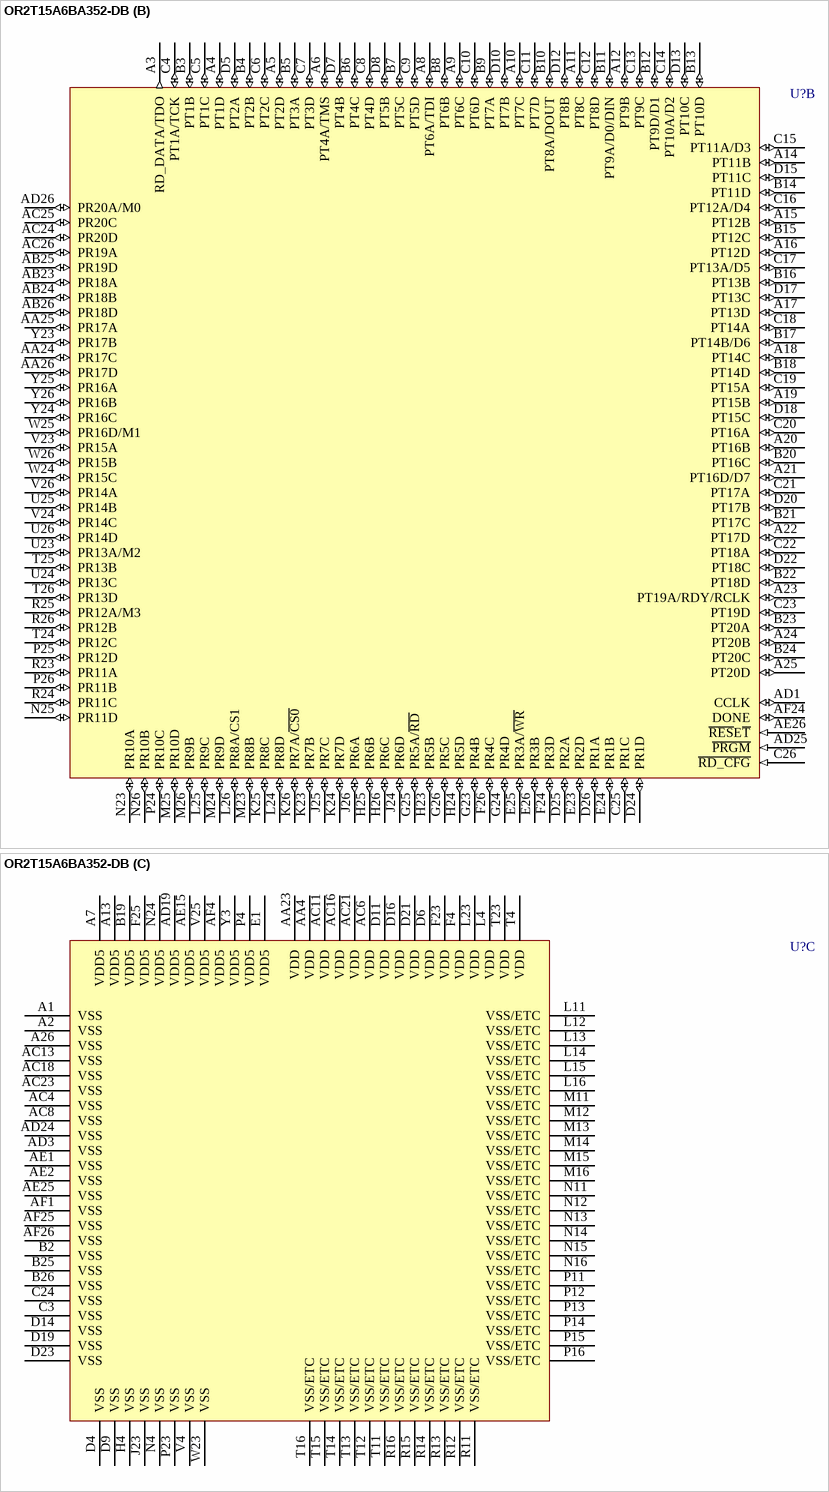
[diagram p114: symbol OR2T15A6BA352-DB]